# Altium schematic symbol library dungvh03-CERN_Logic.SchLib: 486 symbols (part 27 of 54)
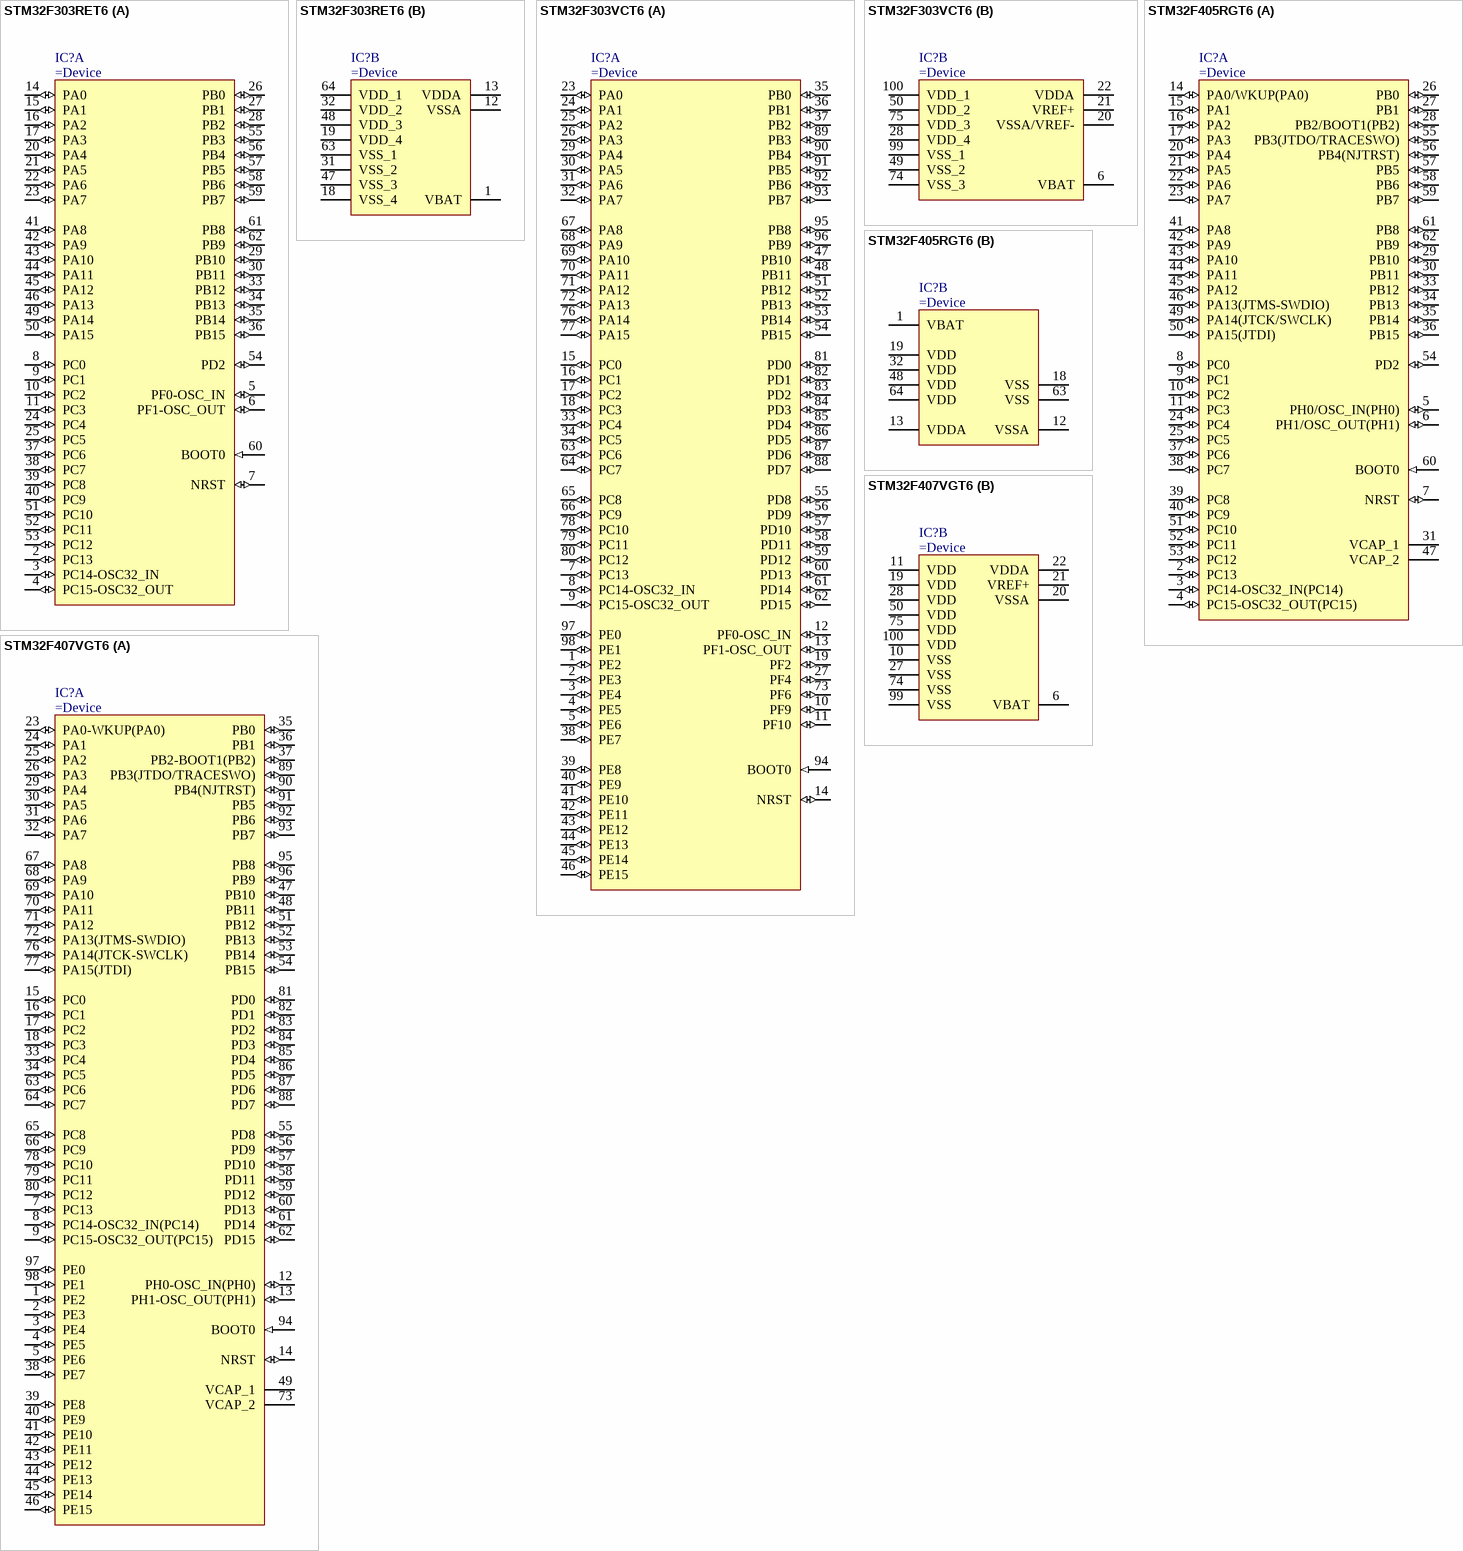
[diagram p287: symbols STM32F303RET6 to STM32F407VGT6]

## STM32F303VCT6
designator IC?
ARM Cortex-M4 32-bit MCU, 256 KB Flash, 40 KB Internal RAM, 87 I/Os, 100-pin LQFP, -40 to 85 degC, Tray
part A pins: 1 PE2 (io) "PE2/TRACECK,TIM3_CH1,TSC_G7_IO1,EVENTOUT", 2 PE3 (io) "PE3/TRACED0,TIM3_CH2,TSC_G7_IO2,EVENTOUT", 3 PE4 (io) "PE4/TRACED1,TIM3_CH3,TSC_G7_IO3,EVENTOUT", 4 PE5 (io) "PE5/TRACED2,TIM3_CH4,TSC_G7_IO4,EVENTOUT", 5 PE6 (io) "PE6/TRACED3,EVENTOUT/WKUP3,RTC_TAMP3", 7 PC13 (io) "PC13/TIM1_CH1N/WKUP2,RTC_TAMP1,RTC_TS,RTC_OUT", 8 PC14-OSC32_IN (io) "PC14-OSC32_IN(PC14)/OSC32_IN", 9 PC15-OSC32_OUT (io) "PC15-OSC32_OUT(PC15)/OSC32_OUT", 10 PF9 (io) "PF9/TIM15_CH1,SPI2_SCK,EVENTOUT", 11 PF10 (io) "PF10/TIM15_CH2,SPI2_SCK,EVENTOUT", 12 PF0-OSC_IN (io) "PF0-OSC_IN(PF0)/TIM1_CH3N,I2C2_SDA/OSC_IN", 13 PF1-OSC_OUT (io) "PF1-OSC_OUT(PF1)/I2C2_SCL/OSC_OUT", 14 NRST (io) "Device reset input / internal reset output (active low)", 15 PC0 (io) "PC0/EVENTOUT/ADC12_IN6,COMP7_INM", 16 PC1 (io) "PC1/EVENTOUT/ADC12_IN7,COMP7_INP", 17 PC2 (io) "PC2/COMP7_OUT,EVENTOUT/ADC12_IN8", 18 PC3 (io) "PC3/TIM1_BKIN2,EVENTOUT/ADC12_IN9", 19 PF2 (io) "PF2/EVENTOUT/ADC12_IN10", 23 PA0 (io) "PA0/USART2_CTS,TIM2_CH1_ETR,TIM8_BKIN,TIM8_ETR,TSC_G1_IO1,COMP1_OUT,EVENTOUT/ADC1_IN1,COMP1_INM,RTC_TAMP2,WKUP1,COMP7_INP", 24 PA1 (io) "PA1/USART2_RTS,TIM2_CH2,TSC_G1_IO2,TIM15_CH1N,RTC_REFIN,EVENTOUT/ADC1_IN2,COMP1_INP,OPAMP1_VINP,OPAMP3_VINP", 25 PA2 (io) "PA2/USART2_TX,TIM2_CH3,TIM15_CH1,TSC_G1_IO3,COMP2_OUT,EVENTOUT/ADC1_IN3,COMP2_INM,OPAMP1_VOUT", 26 PA3 (io) "PA3/USART2_RX,TIM2_CH4,TIM15_CH2,TSC_G1_IO4,EVENTOUT/ADC1_IN4,OPAMP1_VINP,COMP2_INP,OPAMP1_VINM", 27 PF4 (io) "PF4/COMP1_OUT,EVENTOUT/ADC1_IN5", 29 PA4 (io) "PA4/SPI1_NSS,SPI3_NSS,I2S3_WS,USART2_CK,TSC_G2_IO1,TIM3_CH2,EVENTOUT/ADC2_IN1,DAC1_OUT1,OPAMP4_VINP,COMP1_INM,COMP2_INM,COMP3_INM,COMP4_INM,COMP5_INM,COMP6_INM,COMP7_INM", 30 PA5 (io) "PA5/SPI1_SCK,TIM2_CH1_ETR,TSC_G2_IO2,EVENTOUT/ADC2_IN2,DAC1_OUT2,OPAMP1_VINP,OPAMP2_VINM,OPAMP3_VINP,COMP1_INM,COMP2_INM,COMP3_INM,COMP4_INM,COMP5_INM,COMP6_INM,COMP7_INM", 31 PA6 (io) "PA6/SPI1_MISO,TIM3_CH1,TIM8_BKIN,TIM1_BKIN,TIM16_CH1,COMP1_OUT,TSC_G2_IO3,EVENTOUT/ADC2_IN3,OPAMP2_VOUT", 32 PA7 (io) "PA7/SPI1_MOSI,TIM3_CH2,TIM17_CH1,TIM1_CH1N,TIM8_CH1N,TSC_G2_IO4,COMP2_OUT,EVENTOUT/ADC2_IN4,COMP2_INP,OPAMP2_VINP,OPAMP1_VINP", 33 PC4 (io) "PC4/USART1_TX,EVENTOUT/ADC2_IN5", 34 PC5 (io) "PC5/USART1_RX,TSC_G3_IO1,EVENTOUT/ADC2_IN11,OPAMP2_VINM,OPAMP1_VINM", 35 PB0 (io) "PB0/TIM3_CH3,TIM1_CH2N,TIM8_CH2N,TSC_G3_IO2,EVENTOUT/ADC3_IN12,COMP4_INP,OPAMP3_VINP,OPAMP2_VINP", 36 PB1 (io) "PB1/TIM3_CH4,TIM1_CH3N,TIM8_CH3N,COMP4_OUT,TSC_G3_IO3,EVENTOUT/ADC3_IN1,OPAMP3_VOUT", 37 PB2 (io) "PB2/TSC_G3_IO4,EVENTOUT/ADC2_IN12,COMP4_INM,OPAMP3_VINM", 38 PE7 (io) "PE7/TIM1_ETR,EVENTOUT/ADC3_IN13,COMP4_INP", 39 PE8 (io) "PE8/TIM1_CH1N,EVENTOUT/COMP4_INM,ADC34_IN6", 40 PE9 (io) "PE9/TIM1_CH1,EVENTOUT/ADC3_IN2", 41 PE10 (io) "PE10/TIM1_CH2N,EVENTOUT/ADC3_IN14", 42 PE11 (io) "PE11/TIM1_CH2,EVENTOUT/ADC3_IN15", 43 PE12 (io) "PE12/TIM1_CH3N,EVENTOUT/ADC3_IN16", 44 PE13 (io) "PE13/TIM1_CH3,EVENTOUT/ADC3_IN3", 45 PE14 (io) "PE14/TIM1_CH4,TIM1_BKIN2,EVENTOUT/ADC4_IN1", 46 PE15 (io) "PE15/USART3_RX,TIM1_BKIN,EVENTOUT/ADC4_IN2", 47 PB10 (io) "PB10/USART3_TX,TIM2_CH3,TSC_SYNC,EVENTOUT/COMP5_INM,OPAMP4_VINM,OPAMP3_VINM", 48 PB11 (io) "PB11/USART3_RX,TIM2_CH4,TSC_G6_IO1,EVENTOUT/COMP6_INP,OPAMP4_VINP", 51 PB12 (io) "PB12/SPI2_NSS,I2S2_WS,I2C2_SMBA,USART3_CK,TIM1_BKIN,TSC_G6_IO2,EVENTOUT/ADC4_IN3,COMP3_INM,OPAMP4_VOUT", 52 PB13 (io) "PB13/SPI2_SCK,I2S2_CK,USART3_CTS,TIM1_CH1N,TSC_G6_IO3,EVENTOUT/ADC3_IN5,COMP5_INP,OPAMP4_VINP,OPAMP3_VINP", 53 PB14 (io) "PB14/SPI2_MISO,I2S2ext_SD,USART3_RTS,TIM1_CH2N,TIM15_CH1,TSC_G6_IO4,EVENTOUT/COMP3_INP,ADC4_IN4,OPAMP2_VINP", 54 PB15 (io) "PB15/SPI2_MOSI,I2S2_SD,TIM1_CH3N,RTC_REFIN,TIM15_CH1N,TIM15_CH2,EVENTOUT/ADC4_IN5,COMP6_INM", 55 PD8 (io) "PD8/USART3_TX,EVENTOUT/ADC4_IN12,OPAMP4_VINM", 56 PD9 (io) "PD9/USART3_RX,EVENTOUT/ADC4_IN13", 57 PD10 (io) "PD10/USART3_CK,EVENTOUT/ADC34_IN7,COMP6_INM", 58 PD11 (io) "PD11/USART3_CTS,EVENTOUT/ADC34_IN8,COMP6_INP,OPAMP4_VINP", 59 PD12 (io) "PD12/USART3_RTS,TIM4_CH1,TSC_G8_IO1,EVENTOUT/ADC34_IN9,COMP5_INP", 60 PD13 (io) "PD13/TIM4_CH2,TSC_G8_IO2,EVENTOUT/ADC34_IN10,COMP5_INM", 61 PD14 (io) "PD14/TIM4_CH3,TSC_G8_IO3,EVENTOUT/COMP3_INP,ADC34_IN11,OPAMP2_VINP", 62 PD15 (io) "PD15/SPI2_NSS,TIM4_CH4,TSC_G8_IO4,EVENTOUT/COMP3_INM", 63 PC6 (io) "PC6/I2S2_MCK,COMP6_OUT,TIM8_CH1,TIM3_CH1,EVENTOUT", 64 PC7 (io) "PC7/I2S3_MCK,TIM8_CH2,TIM3_CH2,COMP5_OUT,EVENTOUT", 65 PC8 (io) "PC8/TIM8_CH3,TIM3_CH3,COMP3_OUT,EVENTOUT", 66 PC9 (io) "PC9/TIM8_CH4,TIM8_BKIN2,TIM3_CH4,I2S_CKIN,EVENTOUT", 67 PA8 (io) "PA8/I2C2_SMBA,I2S2_MCK,USART1_CK,TIM1_CH1,TIM4_ETR,MCO,COMP3_OUT,EVENTOUT", 68 PA9 (io) "PA9/I2C2_SCL,I2S3_MCK,USART1_TX,TIM1_CH2,TIM2_CH3,TIM15_BKIN,TSC_G4_IO1,COMP5_OUT,EVENTOUT", 69 PA10 (io) "PA10/I2C2_SDA,USART1_RX,TIM1_CH3,TIM2_CH4,TIM8_BKIN,TIM17_BKIN,TSC_G4_IO2,COMP6_OUT,EVENTOUT", 70 PA11 (io) "PA11/USART1_CTS,USB_DM,CAN_RX,TIM1_CH1N,TIM1_CH4,TIM1_BKIN2,TIM4_CH1,COMP1_OUT,EVENTOUT", 71 PA12 (io) "PA12/USART1_RTS,USB_DP,CAN_TX,TIM1_CH2N,TIM1_ETR,TIM4_CH2,TIM16_CH1,COMP2_OUT,EVENTOUT", 72 PA13 (io) "PA13/USART3_CTS,TIM4_CH3,TIM16_CH1N,TSC_G4_IO3,IR_OUT,SWDIO-JTMS,EVENTOUT", 73 PF6 (io) "PF6/I2C2_SCL,USART3_RTS,TIM4_CH4,EVENTOUT", 76 PA14 (io) "PA14/I2C1_SDA,USART2_TX,TIM8_CH2,TIM1_BKIN,TSC_G4_IO4,SWCLK-JTCK,EVENTOUT", 77 PA15 (io) "PA15/I2C1_SCL,SPI1_NSS,SPI3_NSS,I2S3_WS,JTDI,USART2_RX,TIM1_BKIN,TIM2_CH1_ETR,TIM8_CH1,EVENTOUT", 78 PC10 (io) "PC10/SPI3_SCK,I2S3_CK,USART3_TX,UART4_TX,TIM8_CH1N,EVENTOUT", 79 PC11 (io) "PC11/SPI3_MISO,I2S3ext_SD,USART3_RX,UART4_RX,TIM8_CH2N,EVENTOUT", 80 PC12 (io) "PC12/SPI3_MOSI,I2S3_SD,USART3_CK,UART5_TX,TIM8_CH3N,EVENTOUT", 81 PD0 (io) "PD0/CAN_RX,EVENTOUT", 82 PD1 (io) "PD1/CAN_TX,TIM8_CH4,TIM8_BKIN2,EVENTOUT", 83 PD2 (io) "PD2/UART5_RX,TIM3_ETR,TIM8_BKIN,EVENTOUT", 84 PD3 (io) "PD3/USART2_CTS,TIM2_CH1_ETR,EVENTOUT", 85 PD4 (io) "PD4/USART2_RTS,TIM2_CH2,EVENTOUT", 86 PD5 (io) "PD5/USART2_TX,EVENTOUT", 87 PD6 (io) "PD6/USART2_RX,TIM2_CH4,EVENTOUT", 88 PD7 (io) "PD7/USART2_CK,TIM2_CH3,EVENTOUT", 89 PB3 (io) "PB3/SPI3_SCK,I2S3_CK,SPI1_SCK,USART2_TX,TIM2_CH2,TIM3_ETR,TIM4_ETR,TIM8_CH1N,TSC_G5_IO1,JTDO-TRACESWO,EVENTOUT", 90 PB4 (io) "PB4/SPI3_MISO,I2S3ext_SD,SPI1_MISO,USART2_RX,TIM3_CH1,TIM16_CH1,TIM17_BKIN,TIM8_CH2N,TSC_G5_IO2,NJTRST,EVENTOUT", 91 PB5 (io) "PB5/SPI3_MOSI,SPI1_MOSI,I2S3_SD,I2C1_SMBA,USART2_CK,TIM16_BKIN,TIM3_CH2,TIM8_CH3N,TIM17_CH1,EVENTOUT", 92 PB6 (io) "PB6/I2C1_SCL,USART1_TX,TIM16_CH1N,TIM4_CH1,TIM8_CH1,TSC_G5_IO3,TIM8_ETR,TIM8_BKIN2,EVENTOUT", 93 PB7 (io) "PB7/I2C1_SDA,USART1_RX,TIM3_CH4,TIM4_CH2,TIM17_CH1N,TIM8_BKIN,TSC_G5_IO4,EVENTOUT", 94 BOOT0 (in) "Boot memory selection", 95 PB8 (io) "PB8/I2C1_SCL,CAN_RX,TIM16_CH1,TIM4_CH3,TIM8_CH2,TIM1_BKIN,TSC_SYNC,COMP1_OUT,EVENTOUT", 96 PB9 (io) "PB9/I2C1_SDA,CAN_TX,TIM17_CH1,TIM4_CH4,TIM8_CH3,IR_OUT,COMP2_OUT,EVENTOUT", 97 PE0 (io) "PE0/USART1_TX,TIM4_ETR,TIM16_CH1,EVENTOUT", 98 PE1 (io) "PE1/USART1_RX,TIM17_CH1,EVENTOUT"
part B pins: 6 VBAT (power) "Backup power supply", 20 VSSA/VREF- (power) "Analog ground/Negative reference voltage", 21 VREF+ (power) "Positive reference voltage", 22 VDDA (power) "Analog power supply", 28 VDD_4 (power) "Digital power supply", 49 VSS_2 (power) "Digital ground", 50 VDD_2 (power) "Digital power supply", 74 VSS_3 (power) "Ground", 75 VDD_3 (power) "Digital power supply", 99 VSS_1 (power) "Ground", 100 VDD_1 (power) "Digital power supply"

## STM32F405RGT6
designator IC?
ARM Cortex-M4 32-bit MCU+FPU, 210DMIPS, 1024kB Flash, 192kB+4kB RAM, 51 I/Os, 64-pin LQFP, Industrial Grade –40 to 85°C
part A pins: 2 PC13 (io) "PC13/EVENTOUT/RTC_OUT,RTC_TAMP1,RTC_TS", 3 PC14-OSC32_IN(PC14) (io) "PC14-OSC32_IN(PC14)/EVENTOUT/OSC32_IN", 4 PC15-OSC32_OUT(PC15) (io) "PC15-OSC32_OUT(PC15)/EVENTOUT/OSC32_OUT", 5 PH0/OSC_IN(PH0) (io) "PH0/OSC_IN(PH0)/EVENTOUT/OSC_IN", 6 PH1/OSC_OUT(PH1) (io) "PH1-OSC_OUT(PH1)/EVENTOUT/OSC_OUT", 7 NRST (io), 8 PC0 (io) "PC0/OTG_HS_ULPI_STP/EVENTOUT/ADC123_IN10", 9 PC1 (io) "PC1/ETH_MDC/EVENTOUT/ADC123_IN11", 10 PC2 (io) "PC2/SPI2_MISO/OTG_HS_ULPI_DIR/ETH_MII_TXD2/I2S2ext_SD/EVENTOUT/ADC123_IN12", 11 PC3 (io) "PC3/SPI2_MOSI/I2S2_SD/OTG_HS_ULPI_NXT/ETH_MII_TX_CLK/EVENTOUT/ADC123_IN13", 14 PA0/WKUP(PA0) (io) "PA0-WKUP(PA0)/USART2_CTS/UART4_TX/ETH_MII_CRS/TIM2_CH1_ETR/TIM5_CH1/TIM8_ETR/EVENTOUT/ADC123_IN0/WKUP", 15 PA1 (io) "PA1/USART2_RTS/UART4_RX/ETH_RMII_REF_CLK/ETH_MII_RX_CLK/TIM5_CH2/TIM2_CH2/EVENTOUT/ADC123_IN1", 16 PA2 (io) "PA2/USART2_TX/TIM5_CH3/TIM9_CH1/TIM2_CH3/ETH_MDIO/EVENTOUT/ADC123_IN2", 17 PA3 (io) "PA3/USART2_RX/TIM5_CH4/TIM9_CH2/TIM2_CH4/OTG_HS_ULPI_D0/ETH_MII_COL/EVENTOUT/ADC123_IN3", 20 PA4 (io) "PA4/SPI1_NSS/SPI3_NSS/USART2_CK/DCMI_HSYNC/OTG_HS_SOF/I2S3_WS/EVENTOUT/ADC12_IN4/DAC_OUT1", 21 PA5 (io) "PA5/SPI1_SCK/OTG_HS_ULPI_CK/TIM2_CH1_ETR/TIM8_CH1N/EVENTOUT/ADC12_IN5/DAC_OUT2", 22 PA6 (io) "PA6/SPI1_MISO/TIM8_BKIN/TIM13_CH1/DCMI_PIXCLK/TIM3_CH1/TIM1_BKIN/EVENTOUT/ADC12_IN6", 23 PA7 (io) "PA7/SPI1_MOSI/TIM8_CH1N/TIM14_CH1/TIM3_CH2/ETH_MII_RX_DV/TIM1_CH1N/ETH_RMII_CRS_DV/EVENTOUT/ADC12_IN7", 24 PC4 (io) "PC4/ETH_RMII_RX_D0/ETH_MII_RX_D0/EVENTOUT/ADC12_IN14", 25 PC5 (io) "PC5/ETH_RMII_RX_D1/ETH_MII_RX_D1/EVENTOUT/ADC12_IN15", 26 PB0 (io) "PB0/TIM3_CH3/TIM8_CH2N/OTG_HS_ULPI_D1/ETH_MII_RXD2/TIM1_CH2N/EVENTOUT/ADC12_IN8", 27 PB1 (io) "PB1/TIM3_CH4/TIM8_CH3N/OTG_HS_ULPI_D2/ETH_MII_RXD3/TIM1_CH3N/EVENTOUT/ADC12_IN9", 28 PB2/BOOT1(PB2) (io) "PB2-BOOT1(PB2)/EVENTOUT", 29 PB10 (io) "PB10/SPI2_SCK/I2S2_CK/I2C2_SCL/USART3_TX/OTG_HS_ULPI_D3/ETH_MII_RX_ER/TIM2_CH3/EVENTOUT", 30 PB11 (io) "PB11/I2C2_SDA/USART3_RX/OTG_HS_ULPI_D4/ETH_RMII_TX_EN/ETH_MII_TX_EN/TIM2_CH4/EVENTOUT", 31 VCAP_1 (power), 33 PB12 (io) "PB12/SPI2_NSS/I2S2_WS/I2C2_SMBA/USART3_CK/TIM1_BKIN/CAN2_RX/OTG_HS_ULPI_D5/ETH_RMII_TXD0/ETH_MII_TXD0/OTG_HS_ID/EVENTOUT", 34 PB13 (io) "PB13/SPI2_SCK/I2S2_CK/USART3_CTS/TIM1_CH1N/CAN2_TX/OTG_HS_ULPI_D6/ETH_RMII_TXD1/ETH_MII_TXD1/EVENTOUT/OTG_HS_VBUS", 35 PB14 (io) "PB14/SPI2_MISO/TIM1_CH2N/TIM12_CH1/OTG_HS_DM/USART3_RTS/TIM8_CH2N/I2S2ext_SD/EVENTOUT", 36 PB15 (io) "PB15/SPI2_MOSI/I2S2_SD/TIM1_CH3N/TIM8_CH3N/TIM12_CH2/OTG_HS_DP/EVENTOUT/RTC_REFIN", 37 PC6 (io) "PC6/I2S2_MCK/TIM8_CH1/SDIO_D6/USART6_TX/DCMI_D0/TIM3_CH1/EVENTOUT", 38 PC7 (io) "PC7/I2S3_MCK/TIM8_CH2/SDIO_D7/USART6_RX/DCMI_D1/TIM3_CH2/EVENTOUT", 39 PC8 (io) "PC8/TIM8_CH3/SDIO_D0/TIM3_CH3/USART6_CK/DCMI_D2/EVENTOUT", 40 PC9 (io) "PC9/I2S_CKIN/MCO2/TIM8_CH4/SDIO_D1/I2C3_SDA/DCMI_D3/TIM3_CH4/EVENTOUT", 41 PA8 (io) "PA8/MCO1/USART1_CK/TIM1_CH1/I2C3_SCL/OTG_FS_SOF/EVENTOUT", 42 PA9 (io) "PA9/USART1_TX/TIM1_CH2/I2C3_SMBA/DCMI_D0/EVENTOUT/OTG_FS_VBUS", 43 PA10 (io) "PA10/USART1_RX/TIM1_CH3/OTG_FS_ID/DCMI_D1/EVENTOUT", 44 PA11 (io) "PA11/USART1_CTS/CAN1_RX/TIM1_CH4/OTG_FS_DM/EVENTOUT", 45 PA12 (io) "PA12/USART1_RTS/CAN1_TX/TIM1_ETR/OTG_FS_DP/EVENTOUT", 46 PA13(JTMS-SWDIO) (io) "PA13(JTMS-SWDIO)/JTMS-SWDIO/EVENTOUT", 47 VCAP_2 (power), 49 PA14(JTCK/SWCLK) (io) "PA14(JTCK-SWCLK)/JTCK-SWCLK/EVENTOUT", 50 PA15(JTDI) (io) "PA15(JTDI)/JTDI/SPI3_NSS/I2S3_WS/TIM2_CH1_ETR/SPI1_NSS/EVENTOUT", 51 PC10 (io) "PC10/SPI3_SCK/I2S3_CK/UART4_TX/SDIO_D2/DCMI_D8/USART3_TX/EVENTOUT", 52 PC11 (io) "PC11/UART4_RX/SPI3_MISO/SDIO_D3/DCMI_D4/USART3_RX/I2S3ext_SD/EVENTOUT", 53 PC12 (io) "PC12/UART5_TX/SDIO_CK/DCMI_D9/SPI3_MOSI/I2S3_SD/USART3_CK/EVENTOUT", 54 PD2 (io) "PD2/TIM3_ETR/UART5_RX/SDIO_CMD/DCMI_D11/EVENTOUT", 55 PB3(JTDO/TRACESWO) (io) "PB3(JTDO/TRACESWO)/JTDO/TRACESWO/SPI3_SCK/I2S3_CK/TIM2_CH2/SPI1_SCK/EVENTOUT", 56 PB4(NJTRST) (io) "PB4(NJTRST)/NJTRST/SPI3_MISO/TIM3_CH1/SPI1_MISO/I2S3ext_SD/EVENTOUT", 57 PB5 (io) "PB5/I2C1_SMBA/CAN2_RX/OTG_HS_ULPI_D7/ETH_PPS_OUT/TIM3_CH2/SPI1_MOSI/SPI3_MOSI/DCMI_D10/I2S3_SD/EVENTOUT", 58 PB6 (io) "PB6/I2C1_SCL/TIM4_CH1/CAN2_TX/DCMI_D5/USART1_TX/EVENTOUT", 59 PB7 (io) "PB7/I2C1_SDA/FSMC_NL/DCMI_VSYNC/USART1_RX/TIM4_CH2/EVENTOUT", 60 BOOT0 (in) "BOOT0/VPP", 61 PB8 (io) "PB8/TIM4_CH3/SDIO_D4/TIM10_CH1/DCMI_D6/ETH_MII_TXD3/I2C1_SCL/CAN1_RX/EVENTOUT", 62 PB9 (io) "PB9/SPI2_NSS/I2S2_WS/TIM4_CH4/TIM11_CH1/SDIO_D5/DCMI_D7/I2C1_SDA/CAN1_TX/EVENTOUT"
part B pins: 1 VBAT (power), 12 VSSA (power), 13 VDDA (power), 18 VSS (power), 19 VDD (power), 32 VDD (power), 48 VDD (power), 63 VSS (power), 64 VDD (power)

## STM32F407VGT6
designator IC?
ARM Cortex-M4 32-bit MCU+FPU, 210 DMIPS, 1024 kB Flash, 192 kB Internal RAM, 82 I/Os, 100-pin LQFP, -40 to 85 degC, Tray
part A pins: 1 PE2 (io) "PE2/TRACECLK/FSMC_A23/ETH_MII_TXD3/EVENTOUT", 2 PE3 (io) "PE3/TRACED0/FSMC_A19/EVENTOUT", 3 PE4 (io) "PE4/TRACED1/FSMC_A20/DCMI_D4/EVENTOUT", 4 PE5 (io) "PE5/TRACED2/FSMC_A21/TIM9_CH1/DCMI_D6/EVENTOUT", 5 PE6 (io) "PE6/TRACED3/FSMC_A22/TIM9_CH2/DCMI_D7/EVENTOUT", 7 PC13 (io) "PC13/EVENTOUT/RTC_OUT,RTC_TAMP1,RTC_TS", 8 PC14-OSC32_IN(PC14) (io) "PC14-OSC32_IN(PC14)/EVENTOUT/OSC32_IN", 9 PC15-OSC32_OUT(PC15) (io) "PC15-OSC32_OUT(PC15)/EVENTOUT/OSC32_OUT", 12 PH0-OSC_IN(PH0) (io) "PH0-OSC_IN(PH0)/EVENTOUT/OSC_IN", 13 PH1-OSC_OUT(PH1) (io) "PH1-OSC_OUT(PH1)/EVENTOUT/OSC_OUT", 14 NRST (io), 15 PC0 (io) "PC0/OTG_HS_ULPI_STP/EVENTOUT/ADC123_IN10", 16 PC1 (io) "PC1/ETH_MDC/EVENTOUT/ADC123_IN11", 17 PC2 (io) "PC2/SPI2_MISO/OTG_HS_ULPI_DIR/ETH_MII_TXD2/I2S2ext_SD/EVENTOUT/ADC123_IN12", 18 PC3 (io) "PC3/SPI2_MOSI/I2S2_SD/OTG_HS_ULPI_NXT/ETH_MII_TX_CLK/EVENTOUT/ADC123_IN13", 23 PA0-WKUP(PA0) (io) "PA0-WKUP(PA0)/USART2_CTS/UART4_TX/ETH_MII_CRS/TIM2_CH1_ETR/TIM5_CH1/TIM8_ETR/EVENTOUT/ADC123_IN0/WKUP", 24 PA1 (io) "PA1/USART2_RTS/UART4_RX/ETH_RMII_REF_CLK/ETH_MII_RX_CLK/TIM5_CH2/TIM2_CH2/EVENTOUT/ADC123_IN1", 25 PA2 (io) "PA2/USART2_TX/TIM5_CH3/TIM9_CH1/TIM2_CH3/ETH_MDIO/EVENTOUT/ADC123_IN2", 26 PA3 (io) "PA3/USART2_RX/TIM5_CH4/TIM9_CH2/TIM2_CH4/OTG_HS_ULPI_D0/ETH_MII_COL/EVENTOUT/ADC123_IN3", 29 PA4 (io) "PA4/SPI1_NSS/SPI3_NSS/USART2_CK/DCMI_HSYNC/OTG_HS_SOF/I2S3_WS/EVENTOUT/ADC12_IN4/DAC_OUT1", 30 PA5 (io) "PA5/SPI1_SCK/OTG_HS_ULPI_CK/TIM2_CH1_ETR/TIM8_CH1N/EVENTOUT/ADC12_IN5/DAC_OUT2", 31 PA6 (io) "PA6/SPI1_MISO/TIM8_BKIN/TIM13_CH1/DCMI_PIXCLK/TIM3_CH1/TIM1_BKIN/EVENTOUT/ADC12_IN6", 32 PA7 (io) "PA7/SPI1_MOSI/TIM8_CH1N/TIM14_CH1/TIM3_CH2/ETH_MII_RX_DV/TIM1_CH1N/ETH_RMII_CRS_DV/EVENTOUT/ADC12_IN7", 33 PC4 (io) "PC4/ETH_RMII_RX_D0/ETH_MII_RX_D0/EVENTOUT/ADC12_IN14", 34 PC5 (io) "PC5/ETH_RMII_RX_D1/ETH_MII_RX_D1/EVENTOUT/ADC12_IN15", 35 PB0 (io) "PB0/TIM3_CH3/TIM8_CH2N/OTG_HS_ULPI_D1/ETH_MII_RXD2/TIM1_CH2N/EVENTOUT/ADC12_IN8", 36 PB1 (io) "PB1/TIM3_CH4/TIM8_CH3N/OTG_HS_ULPI_D2/ETH_MII_RXD3/TIM1_CH3N/EVENTOUT/ADC12_IN9", 37 PB2-BOOT1(PB2) (io) "PB2-BOOT1(PB2)/EVENTOUT", 38 PE7 (io) "PE7/FSMC_D4/TIM1_ETR/EVENTOUT", 39 PE8 (io) "PE8/FSMC_D5/TIM1_CH1N/EVENTOUT", 40 PE9 (io) "PE9/FSMC_D6/TIM1_CH1/EVENTOUT", 41 PE10 (io) "PE10/FSMC_D7/TIM1_CH2N/EVENTOUT", 42 PE11 (io) "PE11/FSMC_D8/TIM1_CH2/EVENTOUT", 43 PE12 (io) "PE12/FSMC_D9/TIM1_CH3N/EVENTOUT", 44 PE13 (io) "PE13/FSMC_D10/TIM1_CH3/EVENTOUT", 45 PE14 (io) "PE14/FSMC_D11/TIM1_CH4/EVENTOUT", 46 PE15 (io) "PE15/FSMC_D12/TIM1_BKIN/EVENTOUT", 47 PB10 (io) "PB10/SPI2_SCK/I2S2_CK/I2C2_SCL/USART3_TX/OTG_HS_ULPI_D3/ETH_MII_RX_ER/TIM2_CH3/EVENTOUT", 48 PB11 (io) "PB11/I2C2_SDA/USART3_RX/OTG_HS_ULPI_D4/ETH_RMII_TX_EN/ETH_MII_TX_EN/TIM2_CH4/EVENTOUT", 49 VCAP_1 (power), 51 PB12 (io) "PB12/SPI2_NSS/I2S2_WS/I2C2_SMBA/USART3_CK/TIM1_BKIN/CAN2_RX/OTG_HS_ULPI_D5/ETH_RMII_TXD0/ETH_MII_TXD0/OTG_HS_ID/EVENTOUT", 52 PB13 (io) "PB13/SPI2_SCK/I2S2_CK/USART3_CTS/TIM1_CH1N/CAN2_TX/OTG_HS_ULPI_D6/ETH_RMII_TXD1/ETH_MII_TXD1/EVENTOUT/OTG_HS_VBUS", 53 PB14 (io) "PB14/SPI2_MISO/TIM1_CH2N/TIM12_CH1/OTG_HS_DM/USART3_RTS/TIM8_CH2N/I2S2ext_SD/EVENTOUT", 54 PB15 (io) "PB15/SPI2_MOSI/I2S2_SD/TIM1_CH3N/TIM8_CH3N/TIM12_CH2/OTG_HS_DP/EVENTOUT/RTC_REFIN", 55 PD8 (io) "PD8/FSMC_D13/USART3_TX/EVENTOUT", 56 PD9 (io) "PD9/FSMC_D14/USART3_RX/EVENTOUT", 57 PD10 (io) "PD10/FSMC_D15/USART3_CK/EVENTOUT", 58 PD11 (io) "PD11/FSMC_CLE/FSMC_A16/USART3_CTS/EVENTOUT", 59 PD12 (io) "PD12/FSMC_ALE/FSMC_A17/TIM4_CH1/USART3_RTS/EVENTOUT", 60 PD13 (io) "PD13/FSMC_A18/TIM4_CH2/EVENTOUT", 61 PD14 (io) "PD14/FSMC_D0/TIM4_CH3/EVENTOUT", 62 PD15 (io) "PD15/FSMC_D1/TIM4_CH4/EVENTOUT", 63 PC6 (io) "PC6/I2S2_MCK/TIM8_CH1/SDIO_D6/USART6_TX/DCMI_D0/TIM3_CH1/EVENTOUT", 64 PC7 (io) "PC7/I2S3_MCK/TIM8_CH2/SDIO_D7/USART6_RX/DCMI_D1/TIM3_CH2/EVENTOUT", 65 PC8 (io) "PC8/TIM8_CH3/SDIO_D0/TIM3_CH3/USART6_CK/DCMI_D2/EVENTOUT", 66 PC9 (io) "PC9/I2S_CKIN/MCO2/TIM8_CH4/SDIO_D1/I2C3_SDA/DCMI_D3/TIM3_CH4/EVENTOUT", 67 PA8 (io) "PA8/MCO1/USART1_CK/TIM1_CH1/I2C3_SCL/OTG_FS_SOF/EVENTOUT", 68 PA9 (io) "PA9/USART1_TX/TIM1_CH2/I2C3_SMBA/DCMI_D0/EVENTOUT/OTG_FS_VBUS", 69 PA10 (io) "PA10/USART1_RX/TIM1_CH3/OTG_FS_ID/DCMI_D1/EVENTOUT", 70 PA11 (io) "PA11/USART1_CTS/CAN1_RX/TIM1_CH4/OTG_FS_DM/EVENTOUT", 71 PA12 (io) "PA12/USART1_RTS/CAN1_TX/TIM1_ETR/OTG_FS_DP/EVENTOUT", 72 PA13(JTMS-SWDIO) (io) "PA13(JTMS-SWDIO)/JTMS-SWDIO/EVENTOUT", 73 VCAP_2 (power), 76 PA14(JTCK-SWCLK) (io) "PA14(JTCK-SWCLK)/JTCK-SWCLK/EVENTOUT", 77 PA15(JTDI) (io) "PA15(JTDI)/JTDI/SPI3_NSS/I2S3_WS/TIM2_CH1_ETR/SPI1_NSS/EVENTOUT", 78 PC10 (io) "PC10/SPI3_SCK/I2S3_CK/UART4_TX/SDIO_D2/DCMI_D8/USART3_TX/EVENTOUT", 79 PC11 (io) "PC11/UART4_RX/SPI3_MISO/SDIO_D3/DCMI_D4/USART3_RX/I2S3ext_SD/EVENTOUT", 80 PC12 (io) "PC12/UART5_TX/SDIO_CK/DCMI_D9/SPI3_MOSI/I2S3_SD/USART3_CK/EVENTOUT", 81 PD0 (io) "PD0/FSMC_D2/CAN1_RX/EVENTOUT", 82 PD1 (io) "PD1/FSMC_D3/CAN1_TX/EVENTOUT", 83 PD2 (io) "PD2/TIM3_ETR/UART5_RX/SDIO_CMD/DCMI_D11/EVENTOUT", 84 PD3 (io) "PD3/FSMC_CLK/USART2_CTS/EVENTOUT", 85 PD4 (io) "PD4/FSMC_NOE/USART2_RTS/EVENTOUT", 86 PD5 (io) "PD5/FSMC_NWE/USART2_TX/EVENTOUT", 87 PD6 (io) "PD6/FSMC_NWAIT/USART2_RX/EVENTOUT", 88 PD7 (io) "PD7/USART2_CK/FSMC_NE1/FSMC_NCE2/EVENTOUT", 89 PB3(JTDO/TRACESWO) (io) "PB3(JTDO/TRACESWO)/JTDO/TRACESWO/SPI3_SCK/I2S3_CK/TIM2_CH2/SPI1_SCK/EVENTOUT", 90 PB4(NJTRST) (io) "PB4(NJTRST)/NJTRST/SPI3_MISO/TIM3_CH1/SPI1_MISO/I2S3ext_SD/EVENTOUT", 91 PB5 (io) "PB5/I2C1_SMBA/CAN2_RX/OTG_HS_ULPI_D7/ETH_PPS_OUT/TIM3_CH2/SPI1_MOSI/SPI3_MOSI/DCMI_D10/I2S3_SD/EVENTOUT", 92 PB6 (io) "PB6/I2C1_SCL/TIM4_CH1/CAN2_TX/DCMI_D5/USART1_TX/EVENTOUT", 93 PB7 (io) "PB7/I2C1_SDA/FSMC_NL/DCMI_VSYNC/USART1_RX/TIM4_CH2/EVENTOUT", 94 BOOT0 (in) "BOOT0/VPP", 95 PB8 (io) "PB8/TIM4_CH3/SDIO_D4/TIM10_CH1/DCMI_D6/ETH_MII_TXD3/I2C1_SCL/CAN1_RX/EVENTOUT", 96 PB9 (io) "PB9/SPI2_NSS/I2S2_WS/TIM4_CH4/TIM11_CH1/SDIO_D5/DCMI_D7/I2C1_SDA/CAN1_TX/EVENTOUT", 97 PE0 (io) "PE0/TIM4_ETR/FSMC_NBL0/DCMI_D2/EVENTOUT", 98 PE1 (io) "PE1/FSMC_NBL1/DCMI_D3/EVENTOUT"
part B pins: 6 VBAT (power), 10 VSS (power), 11 VDD (power), 19 VDD (power), 20 VSSA (power), 21 VREF+ (power), 22 VDDA (power), 27 VSS (power), 28 VDD (power), 50 VDD (power), 74 VSS (power), 75 VDD (power), 99 VSS (power), 100 VDD (power)

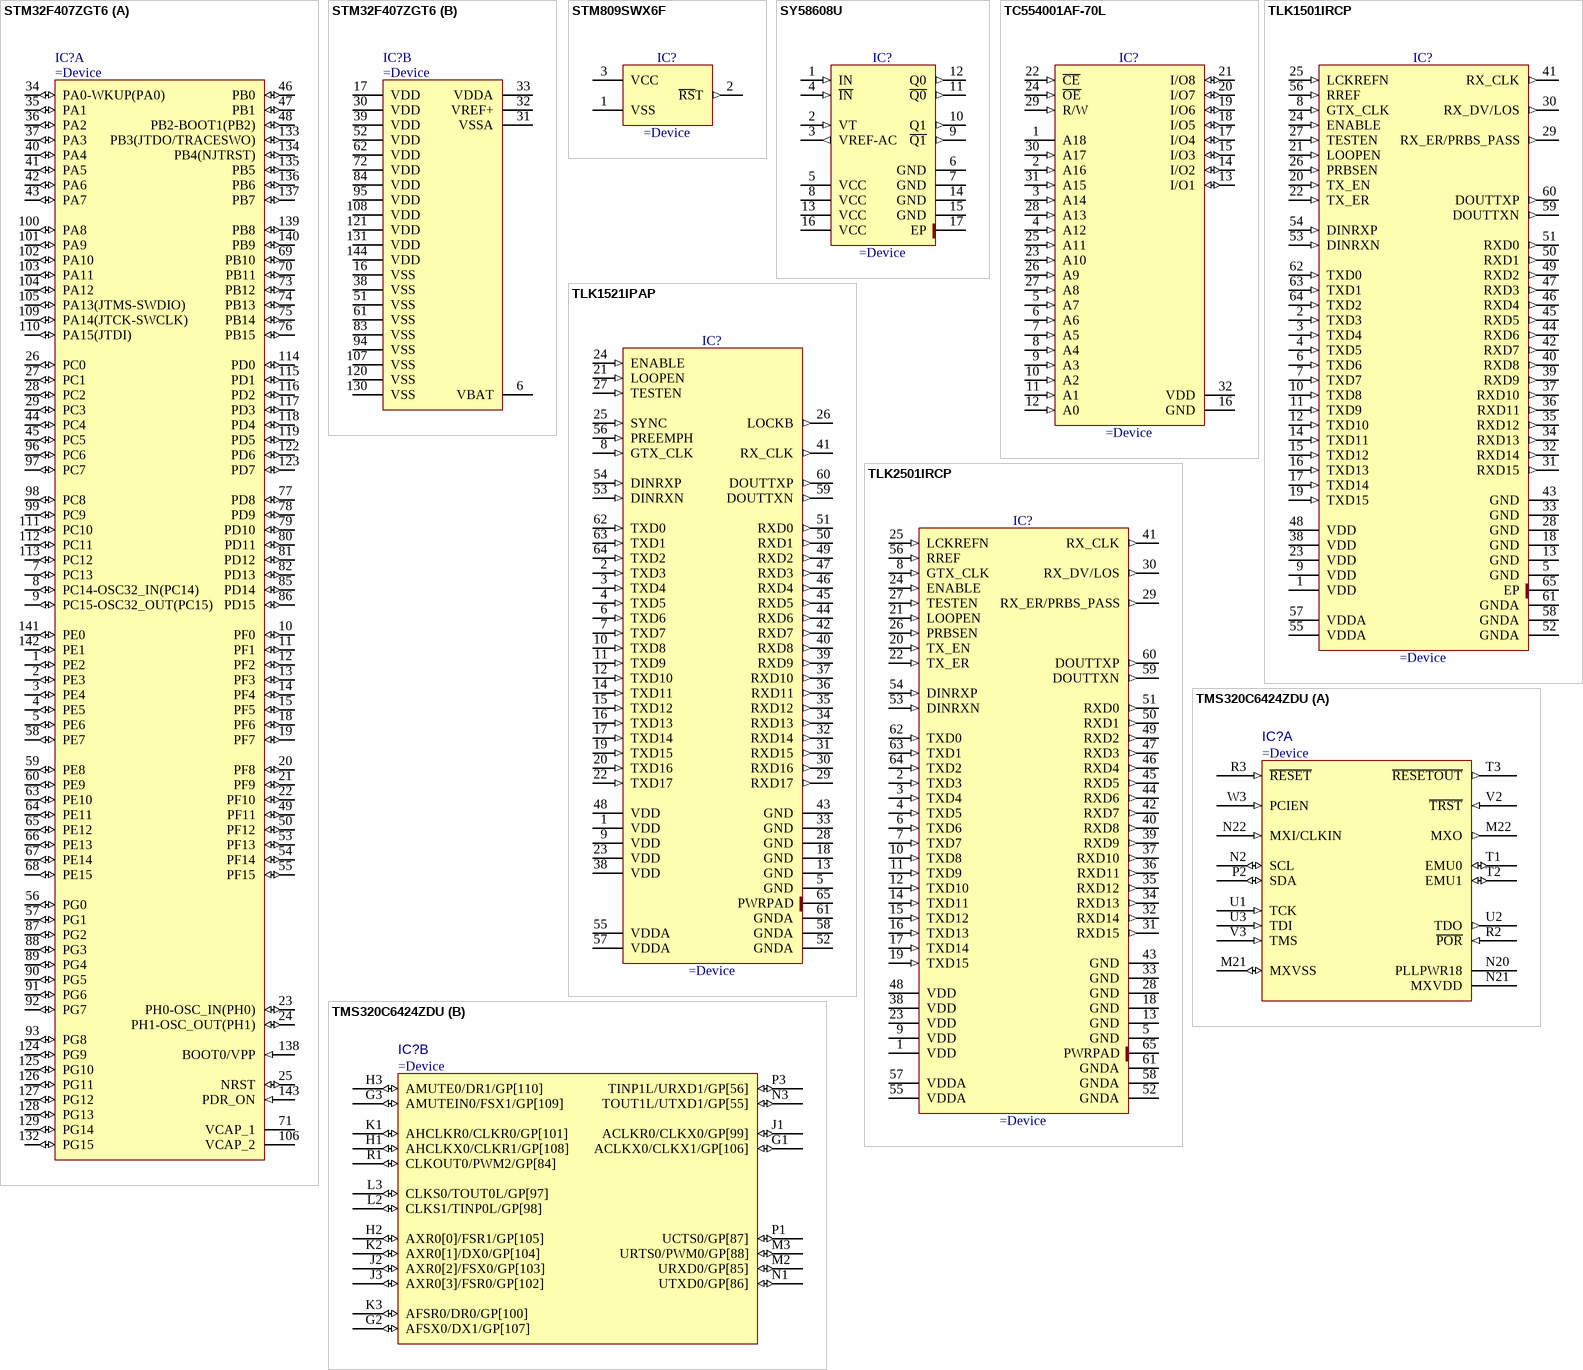
[diagram p121: symbols STM32F407ZGT6 to TMS320C6424ZDU]

## STM32F407ZGT6
designator IC?
ARM Cortex-M4 32-bit MCU+FPU, 210 DMIPS, 1024 kB Flash, 192 kB Internal RAM, 114 I/Os, 144-pin LQFP, -40 to 85 degC, Tray
part A pins: 1 PE2 (io), 2 PE3 (io), 3 PE4 (io), 4 PE5 (io), 5 PE6 (io), 7 PC13 (io), 8 PC14-OSC32_IN(PC14) (io), 9 PC15-OSC32_OUT(PC15) (io), 10 PF0 (io), 11 PF1 (io), 12 PF2 (io), 13 PF3 (io), 14 PF4 (io), 15 PF5 (io), 18 PF6 (io), 19 PF7 (io), 20 PF8 (io), 21 PF9 (io), 22 PF10 (io), 23 PH0-OSC_IN(PH0) (io), 24 PH1-OSC_OUT(PH1) (io), 25 NRST (io), 26 PC0 (io), 27 PC1 (io), 28 PC2 (io), 29 PC3 (io), 34 PA0-WKUP(PA0) (io), 35 PA1 (io), 36 PA2 (io), 37 PA3 (io), 40 PA4 (io), 41 PA5 (io), 42 PA6 (io), 43 PA7 (io), 44 PC4 (io), 45 PC5 (io), 46 PB0 (io), 47 PB1 (io), 48 PB2-BOOT1(PB2) (io), 49 PF11 (io), 50 PF12 (io), 53 PF13 (io), 54 PF14 (io), 55 PF15 (io), 56 PG0 (io), 57 PG1 (io), 58 PE7 (io), 59 PE8 (io), 60 PE9 (io), 63 PE10 (io), 64 PE11 (io), 65 PE12 (io), 66 PE13 (io), 67 PE14 (io), 68 PE15 (io), 69 PB10 (io), 70 PB11 (io), 71 VCAP_1 (power), 73 PB12 (io), 74 PB13 (io), 75 PB14 (io), 76 PB15 (io), 77 PD8 (io), 78 PD9 (io), 79 PD10 (io), 80 PD11 (io), 81 PD12 (io), 82 PD13 (io), 85 PD14 (io), 86 PD15 (io), 87 PG2 (io), 88 PG3 (io), 89 PG4 (io), 90 PG5 (io), 91 PG6 (io), 92 PG7 (io), 93 PG8 (io), 96 PC6 (io), 97 PC7 (io), 98 PC8 (io), 99 PC9 (io), 100 PA8 (io), 101 PA9 (io), 102 PA10 (io), 103 PA11 (io), 104 PA12 (io), 105 PA13(JTMS-SWDIO) (io), 106 VCAP_2 (power), 109 PA14(JTCK-SWCLK) (io), 110 PA15(JTDI) (io), 111 PC10 (io), 112 PC11 (io), 113 PC12 (io), 114 PD0 (io), 115 PD1 (io), 116 PD2 (io), 117 PD3 (io), 118 PD4 (io), 119 PD5 (io), 122 PD6 (io), 123 PD7 (io), 124 PG9 (io), 125 PG10 (io), 126 PG11 (io), 127 PG12 (io), 128 PG13 (io), 129 PG14 (io), 132 PG15 (io), 133 PB3(JTDO/TRACESWO) (io), 134 PB4(NJTRST) (io), 135 PB5 (io), 136 PB6 (io), 137 PB7 (io), 138 BOOT0/VPP (in), 139 PB8 (io), 140 PB9 (io), 141 PE0 (io), 142 PE1 (io), 143 PDR_ON (in)
part B pins: 6 VBAT (power), 16 VSS (power), 17 VDD (power), 30 VDD (power), 31 VSSA (power), 32 VREF+ (power), 33 VDDA (power), 38 VSS (power), 39 VDD (power), 51 VSS (power), 52 VDD (power), 61 VSS (power), 62 VDD (power), 72 VDD (power), 83 VSS (power), 84 VDD (power), 94 VSS (power), 95 VDD (power), 107 VSS (power), 108 VDD (power), 120 VSS (power), 121 VDD (power), 130 VSS (power), 131 VDD (power), 144 VDD (power)

## STM809SWX6F
designator IC?
3-Pin Microprocessor Reset Circuit
pins: 1 VSS (power), 2 ~{RS}T (out), 3 VCC (power)

## SY58608U
designator IC?
3.2Gbps Precision, 1:2 LVDS Fanout Buffer With Internal Termination And Fail Safe Input
pins: 1 IN (in), 2 VT (in), 3 VREF-AC (out), 4 ~{IN} (in), 5 VCC (power), 6 GND (power), 7 GND (power), 8 VCC (power), 9 ~{Q1} (out), 10 Q1 (out), 11 ~{Q0} (out), 12 Q0 (out), 13 VCC (power), 14 GND (power), 15 GND (power), 16 VCC (power), 17 EP (power)

## TC554001AF-70L
designator IC?
524,288-Word by 8-Bit Static RAM
pins: 1 A18, 2 A16 (in), 3 A14 (in), 4 A12 (in), 5 A7 (in), 6 A6 (in), 7 A5 (in), 8 A4 (in), 9 A3 (in), 10 A2 (in), 11 A1 (in), 12 A0 (in), 13 I/O1 (io), 14 I/O2 (io), 15 I/O3 (io), 16 GND (power), 17 I/O4 (io), 18 I/O5 (io), 19 I/O6 (io), 20 I/O7 (io), 21 I/O8 (io), 22 ~{CE} (in), 23 A10 (in), 24 ~{OE} (in), 25 A11 (in), 26 A9 (in), 27 A8 (in), 28 A13 (in), 29 R/W (in), 30 A17 (in), 31 A15 (in), 32 VDD (power)

## TLK1501IRCP
designator IC?
0.6 to 1.5 Gbps Transceiver
pins: 1 VDD (power), 2 TXD3 (in), 3 TXD4 (in), 4 TXD5 (in), 5 GND (power), 6 TXD6 (in), 7 TXD7 (in), 8 GTX_CLK (in), 9 VDD (power), 10 TXD8 (in), 11 TXD9 (in), 12 TXD10 (in), 13 GND (power), 14 TXD11 (in), 15 TXD12 (in), 16 TXD13 (in), 17 TXD14 (in), 18 GND (power), 19 TXD15 (in), 20 TX_EN (in), 21 LOOPEN (in), 22 TX_ER (in), 23 VDD (power), 24 ENABLE (in), 25 LCKREFN (in), 26 PRBSEN (in), 27 TESTEN (in), 28 GND (power), 29 RX_ER/PRBS_PASS (out), 30 RX_DV/LOS (out), 31 RXD15 (out), 32 RXD14 (out), 33 GND (power), 34 RXD13 (out), 35 RXD12 (out), 36 RXD11 (out), 37 RXD10 (out), 38 VDD (power), 39 RXD9 (out), 40 RXD8 (out), 41 RX_CLK (out), 42 RXD7 (out), 43 GND (power), 44 RXD6 (out), 45 RXD5 (out), 46 RXD4 (out), 47 RXD3 (out), 48 VDD (power), 49 RXD2 (out), 50 RXD1 (out), 51 RXD0 (out), 52 GNDA (power), 53 DINRXN (in), 54 DINRXP (in), 55 VDDA (power), 56 RREF (in), 57 VDDA (power), 58 GNDA (power), 59 DOUTTXN (out), 60 DOUTTXP (out), 61 GNDA (power), 62 TXD0 (in), 63 TXD1 (in), 64 TXD2 (in), 65 EP (power)

## TLK1521IPAP
designator IC?
500Mbps to 1.3Gbps Transceiver
pins: 1 VDD (power), 2 TXD3 (in), 3 TXD4 (in), 4 TXD5 (in), 5 GND (power), 6 TXD6 (in), 7 TXD7 (in), 8 GTX_CLK (in), 9 VDD (power), 10 TXD8 (in), 11 TXD9 (in), 12 TXD10 (in), 13 GND (power), 14 TXD11 (in), 15 TXD12 (in), 16 TXD13 (in), 17 TXD14 (in), 18 GND (power), 19 TXD15 (in), 20 TXD16 (in), 21 LOOPEN (in), 22 TXD17 (in), 23 VDD (power), 24 ENABLE (in), 25 SYNC (in), 26 LOCKB (out), 27 TESTEN (in), 28 GND (power), 29 RXD17 (out), 30 RXD16 (out), 31 RXD15 (out), 32 RXD14 (out), 33 GND (power), 34 RXD13 (out), 35 RXD12 (out), 36 RXD11 (out), 37 RXD10 (out), 38 VDD (power), 39 RXD9 (out), 40 RXD8 (out), 41 RX_CLK (out), 42 RXD7 (out), 43 GND (power), 44 RXD6 (out), 45 RXD5 (out), 46 RXD4 (out), 47 RXD3 (out), 48 VDD (power), 49 RXD2 (out), 50 RXD1 (out), 51 RXD0 (out), 52 GNDA (power), 53 DINRXN (in), 54 DINRXP (in), 55 VDDA (power), 56 PREEMPH (in), 57 VDDA (power), 58 GNDA (power), 59 DOUTTXN (out), 60 DOUTTXP (out), 61 GNDA (power), 62 TXD0 (in), 63 TXD1 (in), 64 TXD2 (in), 65 PWRPAD (power)

## TLK2501IRCP
designator IC?
1.5 to 2.5 Gbps Transceiver
pins: 1 VDD (power), 2 TXD3 (in), 3 TXD4 (in), 4 TXD5 (in), 5 GND (power), 6 TXD6 (in), 7 TXD7 (in), 8 GTX_CLK (in), 9 VDD (power), 10 TXD8 (in), 11 TXD9 (in), 12 TXD10 (in), 13 GND (power), 14 TXD11 (in), 15 TXD12 (in), 16 TXD13 (in), 17 TXD14 (in), 18 GND (power), 19 TXD15 (in), 20 TX_EN (in), 21 LOOPEN (in), 22 TX_ER (in), 23 VDD (power), 24 ENABLE (in), 25 LCKREFN (in), 26 PRBSEN (in), 27 TESTEN (in), 28 GND (power), 29 RX_ER/PRBS_PASS (out), 30 RX_DV/LOS (out), 31 RXD15 (out), 32 RXD14 (out), 33 GND (power), 34 RXD13 (out), 35 RXD12 (out), 36 RXD11 (out), 37 RXD10 (out), 38 VDD (power), 39 RXD9 (out), 40 RXD8 (out), 41 RX_CLK (out), 42 RXD7 (out), 43 GND (power), 44 RXD6 (out), 45 RXD5 (out), 46 RXD4 (out), 47 RXD3 (out), 48 VDD (power), 49 RXD2 (out), 50 RXD1 (out), 51 RXD0 (out), 52 GNDA (power), 53 DINRXN (in), 54 DINRXP (in), 55 VDDA (power), 56 RREF (in), 57 VDDA (power), 58 GNDA (power), 59 DOUTTXN (out), 60 DOUTTXP (out), 61 GNDA (power), 62 TXD0 (in), 63 TXD1 (in), 64 TXD2 (in), 65 PWRPAD (power)

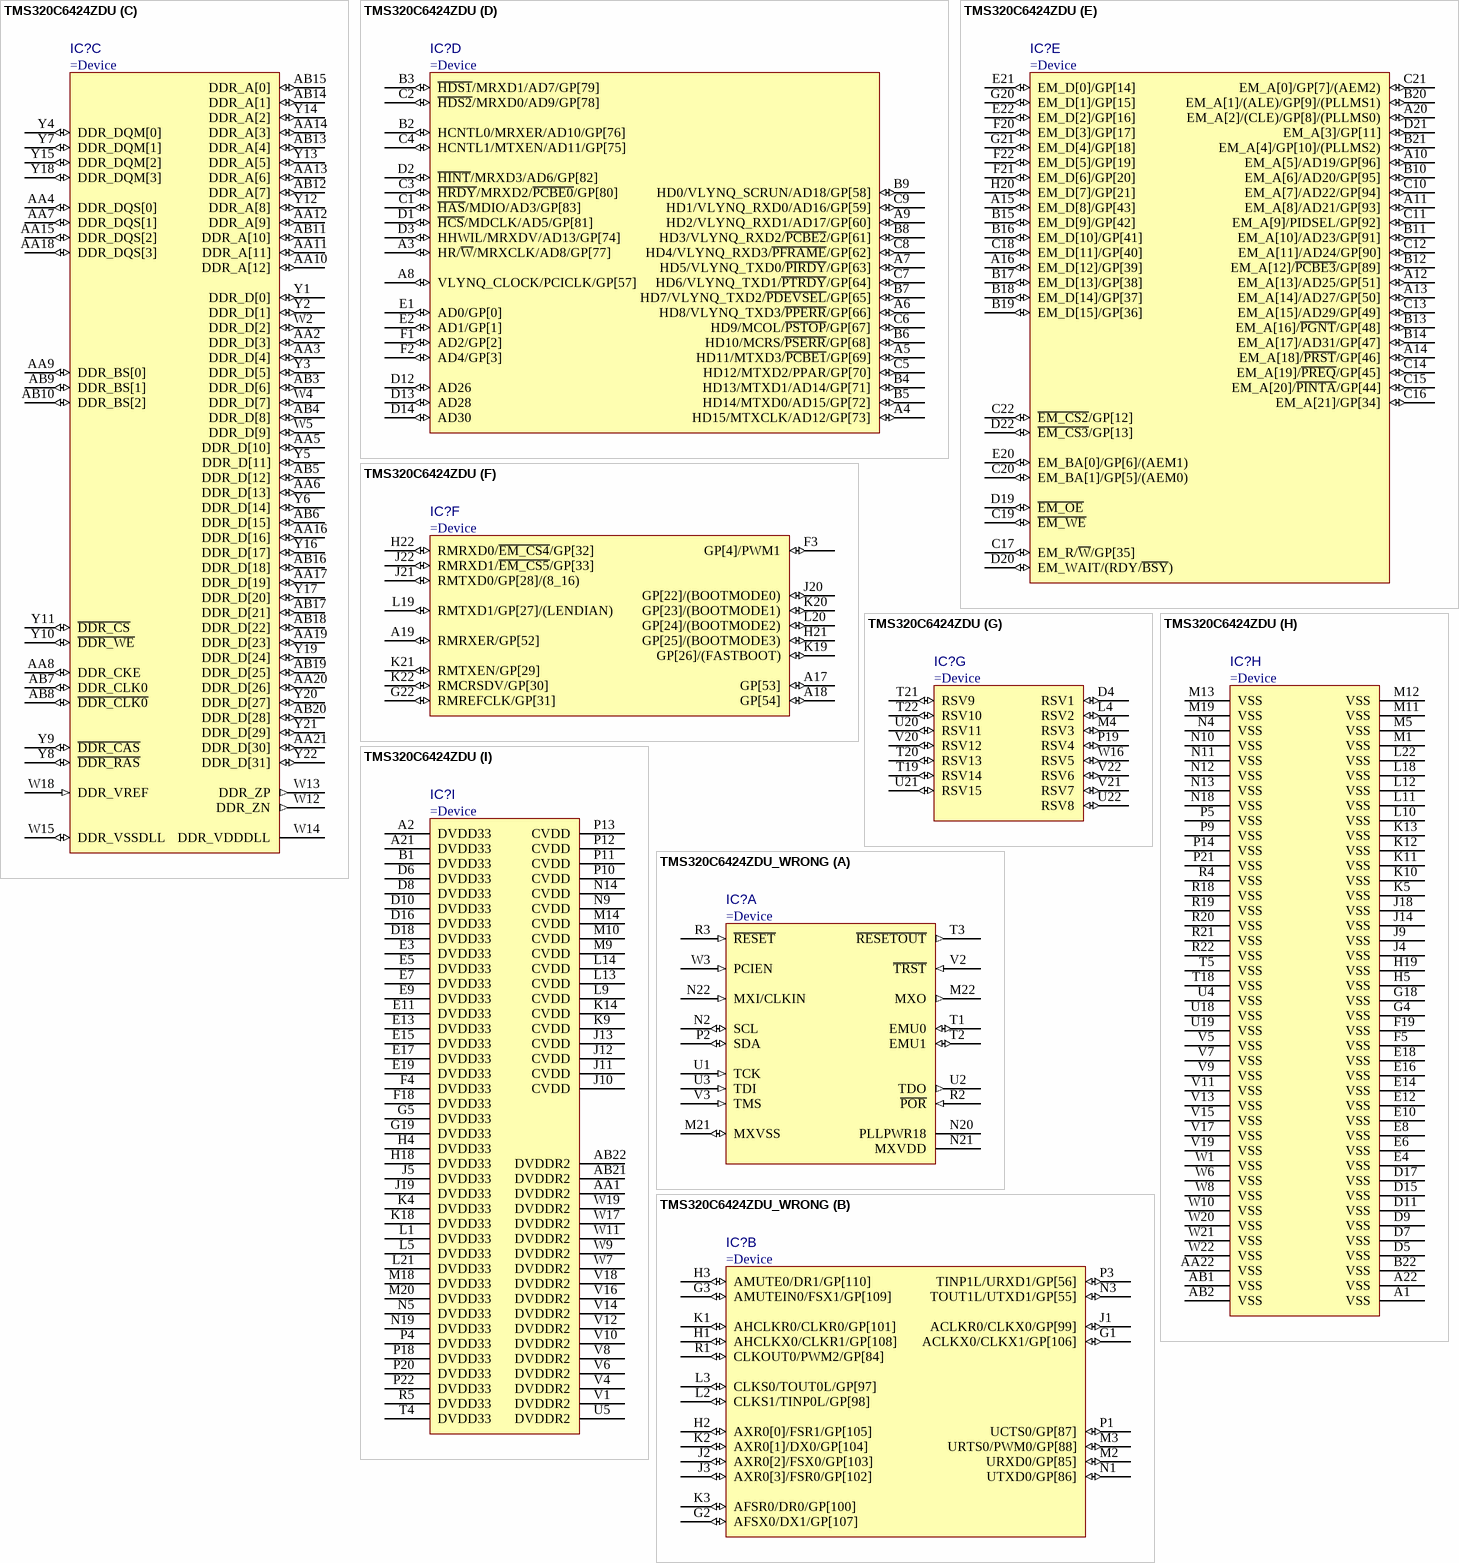
[diagram p122: symbols TMS320C6424ZDU to TMS320C6424ZDU_WRONG]

## TMS320C6424ZDU
designator IC?
Fixed-Point Digital Signal Processor (DSP)
part A pins: M21 MXVSS (io), M22 MXO (out), N2 SCL (io), N20 PLLPWR18 (power), N21 MXVDD (power), N22 MXI/CLKIN (in), P2 SDA (io), R2 ~{POR} (in), R3 ~{RESET} (in), T1 EMU0 (io), T2 EMU1 (io), T3 ~{RESETOUT} (out), U1 TCK (in), U2 TDO (out), U3 TDI (in), V2 ~{TRST} (in), V3 TMS (in), W3 PCIEN (in)
part B pins: G1 ACLKX0/CLKX1/GP[106] (io), G2 AFSX0/DX1/GP[107] (io), G3 AMUTEIN0/FSX1/GP[109] (io), H1 AHCLKX0/CLKR1/GP[108] (io), H2 AXR0[0]/FSR1/GP[105] (io), H3 AMUTE0/DR1/GP[110] (io), J1 ACLKR0/CLKX0/GP[99] (io), J2 AXR0[2]/FSX0/GP[103] (io), J3 AXR0[3]/FSR0/GP[102] (io), K1 AHCLKR0/CLKR0/GP[101] (io), K2 AXR0[1]/DX0/GP[104] (io), K3 AFSR0/DR0/GP[100] (io), L2 CLKS1/TINP0L/GP[98] (io), L3 CLKS0/TOUT0L/GP[97] (io), M2 URXD0/GP[85] (io), M3 URTS0/PWM0/GP[88] (io), N1 UTXD0/GP[86] (io), N3 TOUT1L/UTXD1/GP[55] (io), P1 UCTS0/GP[87] (io), P3 TINP1L/URXD1/GP[56] (io), R1 CLKOUT0/PWM2/GP[84] (io)
part C pins: AA2 DDR_D[3] (io), AA3 DDR_D[4] (io), AA4 DDR_DQS[0] (io), AA5 DDR_D[10] (io), AA6 DDR_D[13] (io), AA7 DDR_DQS[1] (io), AA8 DDR_CKE (io), AA9 DDR_BS[0] (io), AA10 DDR_A[12] (io), AA11 DDR_A[11] (io), AA12 DDR_A[9] (io), AA13 DDR_A[6] (io), AA14 DDR_A[3] (io), AA15 DDR_DQS[2] (io), AA16 DDR_D[16] (io), AA17 DDR_D[19] (io), AA18 DDR_DQS[3] (io), AA19 DDR_D[23] (io), AA20 DDR_D[26] (io), AA21 DDR_D[30] (io), AB3 DDR_D[6] (io), AB4 DDR_D[8] (io), AB5 DDR_D[12] (io), AB6 DDR_D[15] (io), AB7 DDR_CLK0 (io), AB8 ~{DDR_CLK0} (io), AB9 DDR_BS[1] (io), AB10 DDR_BS[2] (io), AB11 DDR_A[10] (io), AB12 DDR_A[7] (io), AB13 DDR_A[4] (io), AB14 DDR_A[1] (io), AB15 DDR_A[0] (io), AB16 DDR_D[18] (io), AB17 DDR_D[21] (io), AB18 DDR_D[22] (io), AB19 DDR_D[25] (io), AB20 DDR_D[28] (io), W2 DDR_D[2] (io), W4 DDR_D[7] (io), W5 DDR_D[9] (io), W12 DDR_ZN (out), W13 DDR_ZP (out), W14 DDR_VDDDLL (power), W15 DDR_VSSDLL (io), W18 DDR_VREF (in), Y1 DDR_D[0] (io), Y2 DDR_D[1] (io), Y3 DDR_D[5] (io), Y4 DDR_DQM[0] (io), Y5 DDR_D[11] (io), Y6 DDR_D[14] (io), Y7 DDR_DQM[1] (io), Y8 ~{DDR_RAS} (io), Y9 ~{DDR_CAS} (io), Y10 ~{DDR_WE} (io), Y11 ~{DDR_CS} (io), Y12 DDR_A[8] (io), Y13 DDR_A[5] (io), Y14 DDR_A[2] (io), Y15 DDR_DQM[2] (io), Y16 DDR_D[17] (io), Y17 DDR_D[20] (io), Y18 DDR_DQM[3] (io), Y19 DDR_D[24] (io), Y20 DDR_D[27] (io), Y21 DDR_D[29] (io), Y22 DDR_D[31] (io)
part D pins: A3 HR/~{W}/MRXCLK/AD8/GP[77] (io), A4 HD15/MTXCLK/AD12/GP[73] (io), A5 HD11/MTXD3/~{PCBE1}/GP[69] (io), A6 HD8/VLYNQ_TXD3/~{PPERR}/GP[66] (io), A7 HD5/VLYNQ_TXD0/~{PIRDY}/GP[63] (io), A8 VLYNQ_CLOCK/PCICLK/GP[57] (io), A9 HD2/VLYNQ_RXD1/AD17/GP[60] (io), B2 HCNTL0/MRXER/AD10/GP[76] (io), B3 ~{HDS1}/MRXD1/AD7/GP[79] (io), B4 HD13/MTXD1/AD14/GP[71] (io), B5 HD14/MTXD0/AD15/GP[72] (io), B6 HD10/MCRS/~{PSERR}/GP[68] (io), B7 HD7/VLYNQ_TXD2/~{PDEVSEL}/GP[65] (io), B8 HD3/VLYNQ_RXD2/~{PCBE2}/GP[61] (io), B9 HD0/VLYNQ_SCRUN/AD18/GP[58] (io), C1 ~{HAS}/MDIO/AD3/GP[83] (io), C2 ~{HDS2}/MRXD0/AD9/GP[78] (io), C3 ~{HRDY}/MRXD2/~{PCBE0}/GP[80] (io), C4 HCNTL1/MTXEN/AD11/GP[75] (io), C5 HD12/MTXD2/PPAR/GP[70] (io), C6 HD9/MCOL/~{PSTOP}/GP[67] (io), C7 HD6/VLYNQ_TXD1/~{PTRDY}/GP[64] (io), C8 HD4/VLYNQ_RXD3/~{PFRAME}/GP[62] (io), C9 HD1/VLYNQ_RXD0/AD16/GP[59] (io), D1 ~{HCS}/MDCLK/AD5/GP[81] (io), D2 ~{HINT}/MRXD3/AD6/GP[82] (io), D3 HHWIL/MRXDV/AD13/GP[74] (io), D12 AD26 (io), D13 AD28 (io), D14 AD30 (io), E1 AD0/GP[0] (io), E2 AD1/GP[1] (io), F1 AD2/GP[2] (io), F2 AD4/GP[3] (io)
part E pins: A10 EM_A[5]/AD19/GP[96] (io), A11 EM_A[8]/AD21/GP[93] (io), A12 EM_A[13]/AD25/GP[51] (io), A13 EM_A[14]/AD27/GP[50] (io), A14 EM_A[18]/~{PRST}/GP[46] (io), A15 EM_D[8]/GP[43] (io), A16 EM_D[12]/GP[39] (io), A20 EM_A[2]/(CLE)/GP[8]/(PLLMS0) (io), B10 EM_A[6]/AD20/GP[95] (io), B11 EM_A[10]/AD23/GP[91] (io), B12 EM_A[12]/~{PCBE3}/GP[89] (io), B13 EM_A[16]/~{PGNT}/GP[48] (io), B14 EM_A[17]/AD31/GP[47] (io), B15 EM_D[9]/GP[42] (io), B16 EM_D[10]/GP[41] (io), B17 EM_D[13]/GP[38] (io), B18 EM_D[14]/GP[37] (io), B19 EM_D[15]/GP[36] (io), B20 EM_A[1]/(ALE)/GP[9]/(PLLMS1) (io), B21 EM_A[4]/GP[10]/(PLLMS2) (io), C10 EM_A[7]/AD22/GP[94] (io), C11 EM_A[9]/PIDSEL/GP[92] (io), C12 EM_A[11]/AD24/GP[90] (io), C13 EM_A[15]/AD29/GP[49] (io), C14 EM_A[19]/~{PREQ}/GP[45] (io), C15 EM_A[20]/~{PINTA}/GP[44] (io), C16 EM_A[21]/GP[34] (io), C17 EM_R/~{W}/GP[35] (io), C18 EM_D[11]/GP[40] (io), C19 ~{EM_WE} (io), C20 EM_BA[1]/GP[5]/(AEM0) (io), C21 EM_A[0]/GP[7]/(AEM2) (io), C22 ~{EM_CS2}/GP[12] (io), D19 ~{EM_OE} (io), D20 EM_WAIT/(RDY/~{BSY}) (io), D21 EM_A[3]/GP[11] (io), D22 ~{EM_CS3}/GP[13] (io), E20 EM_BA[0]/GP[6]/(AEM1) (io), E21 EM_D[0]/GP[14] (io), E22 EM_D[2]/GP[16] (io), F20 EM_D[3]/GP[17] (io), F21 EM_D[6]/GP[20] (io), F22 EM_D[5]/GP[19] (io), G20 EM_D[1]/GP[15] (io), G21 EM_D[4]/GP[18] (io), H20 EM_D[7]/GP[21] (io)
part F pins: A17 GP[53] (io), A18 GP[54] (io), A19 RMRXER/GP[52] (io), F3 GP[4]/PWM1 (io), G22 RMREFCLK/GP[31] (io), H21 GP[25]/(BOOTMODE3) (io), H22 RMRXD0/~{EM_CS4}/GP[32] (io), J20 GP[22]/(BOOTMODE0) (io), J21 RMTXD0/GP[28]/(8_16) (io), J22 RMRXD1/~{EM_CS5}/GP[33] (io), K19 GP[26]/(FASTBOOT) (io), K20 GP[23]/(BOOTMODE1) (io), K21 RMTXEN/GP[29] (io), K22 RMCRSDV/GP[30] (io), L19 RMTXD1/GP[27]/(LENDIAN) (io), L20 GP[24]/(BOOTMODE2) (io)
part G pins: D4 RSV1 (io), L4 RSV2 (io), M4 RSV3 (io), P19 RSV4 (io), T19 RSV14 (io), T20 RSV13 (io), T21 RSV9 (io), T22 RSV10 (io), U20 RSV11 (io), U21 RSV15 (io), U22 RSV8 (io), V20 RSV12 (io), V21 RSV7 (io), V22 RSV6 (io), W16 RSV5 (io)
part H pins: A1 VSS (power), A22 VSS (power), AA22 VSS (power), AB1 VSS (power), AB2 VSS (power), B22 VSS (power), D5 VSS (power), D7 VSS (power), D9 VSS (power), D11 VSS (power), D15 VSS (power), D17 VSS (power), E4 VSS (power), E6 VSS (power), E8 VSS (power), E10 VSS (power), E12 VSS (power), E14 VSS (power), E16 VSS (power), E18 VSS (power), F5 VSS (power), F19 VSS (power), G4 VSS (power), G18 VSS (power), H5 VSS (power), H19 VSS (power), J4 VSS (power), J9 VSS (power), J14 VSS (power), J18 VSS (power), K5 VSS (power), K10 VSS (power), K11 VSS (power), K12 VSS (power), K13 VSS (power), L10 VSS (power), L11 VSS (power), L12 VSS (power), L18 VSS (power), L22 VSS (power), M1 VSS (power), M5 VSS (power), M11 VSS (power), M12 VSS (power), M13 VSS (power), M19 VSS (power), N4 VSS (power), N10 VSS (power), N11 VSS (power), N12 VSS (power), N13 VSS (power), N18 VSS (power), P5 VSS (power), P9 VSS (power), P14 VSS (power), P21 VSS (power), R4 VSS (power), R18 VSS (power), R19 VSS (power), R20 VSS (power), R21 VSS (power), R22 VSS (power), T5 VSS (power), T18 VSS (power), U4 VSS (power), U18 VSS (power), U19 VSS (power), V5 VSS (power), V7 VSS (power), V9 VSS (power), V11 VSS (power), V13 VSS (power), V15 VSS (power), V17 VSS (power), V19 VSS (power), W1 VSS (power), W6 VSS (power), W8 VSS (power), W10 VSS (power), W20 VSS (power), W21 VSS (power), W22 VSS (power)
part I pins: A2 DVDD33 (power), A21 DVDD33 (power), AA1 DVDDR2 (power), AB21 DVDDR2 (power), AB22 DVDDR2 (power), B1 DVDD33 (power), D6 DVDD33 (power), D8 DVDD33 (power), D10 DVDD33 (power), D16 DVDD33 (power), D18 DVDD33 (power), E3 DVDD33 (power), E5 DVDD33 (power), E7 DVDD33 (power), E9 DVDD33 (power), E11 DVDD33 (power), E13 DVDD33 (power), E15 DVDD33 (power), E17 DVDD33 (power), E19 DVDD33 (power), F4 DVDD33 (power), F18 DVDD33 (power), G5 DVDD33 (power), G19 DVDD33 (power), H4 DVDD33 (power), H18 DVDD33 (power), J5 DVDD33 (power), J10 CVDD (power), J11 CVDD (power), J12 CVDD (power), J13 CVDD (power), J19 DVDD33 (power), K4 DVDD33 (power), K9 CVDD (power), K14 CVDD (power), K18 DVDD33 (power), L1 DVDD33 (power), L5 DVDD33 (power), L9 CVDD (power), L13 CVDD (power), L14 CVDD (power), L21 DVDD33 (power), M9 CVDD (power), M10 CVDD (power), M14 CVDD (power), M18 DVDD33 (power), M20 DVDD33 (power), N5 DVDD33 (power), N9 CVDD (power), N14 CVDD (power), N19 DVDD33 (power), P4 DVDD33 (power), P10 CVDD (power), P11 CVDD (power), P12 CVDD (power), P13 CVDD (power), P18 DVDD33 (power), P20 DVDD33 (power), P22 DVDD33 (power), R5 DVDD33 (power), T4 DVDD33 (power), U5 DVDDR2 (power), V1 DVDDR2 (power), V4 DVDDR2 (power), V6 DVDDR2 (power), V8 DVDDR2 (power), V10 DVDDR2 (power), V12 DVDDR2 (power), V14 DVDDR2 (power), V16 DVDDR2 (power), V18 DVDDR2 (power), W7 DVDDR2 (power), W9 DVDDR2 (power), W11 DVDDR2 (power), W17 DVDDR2 (power), W19 DVDDR2 (power)

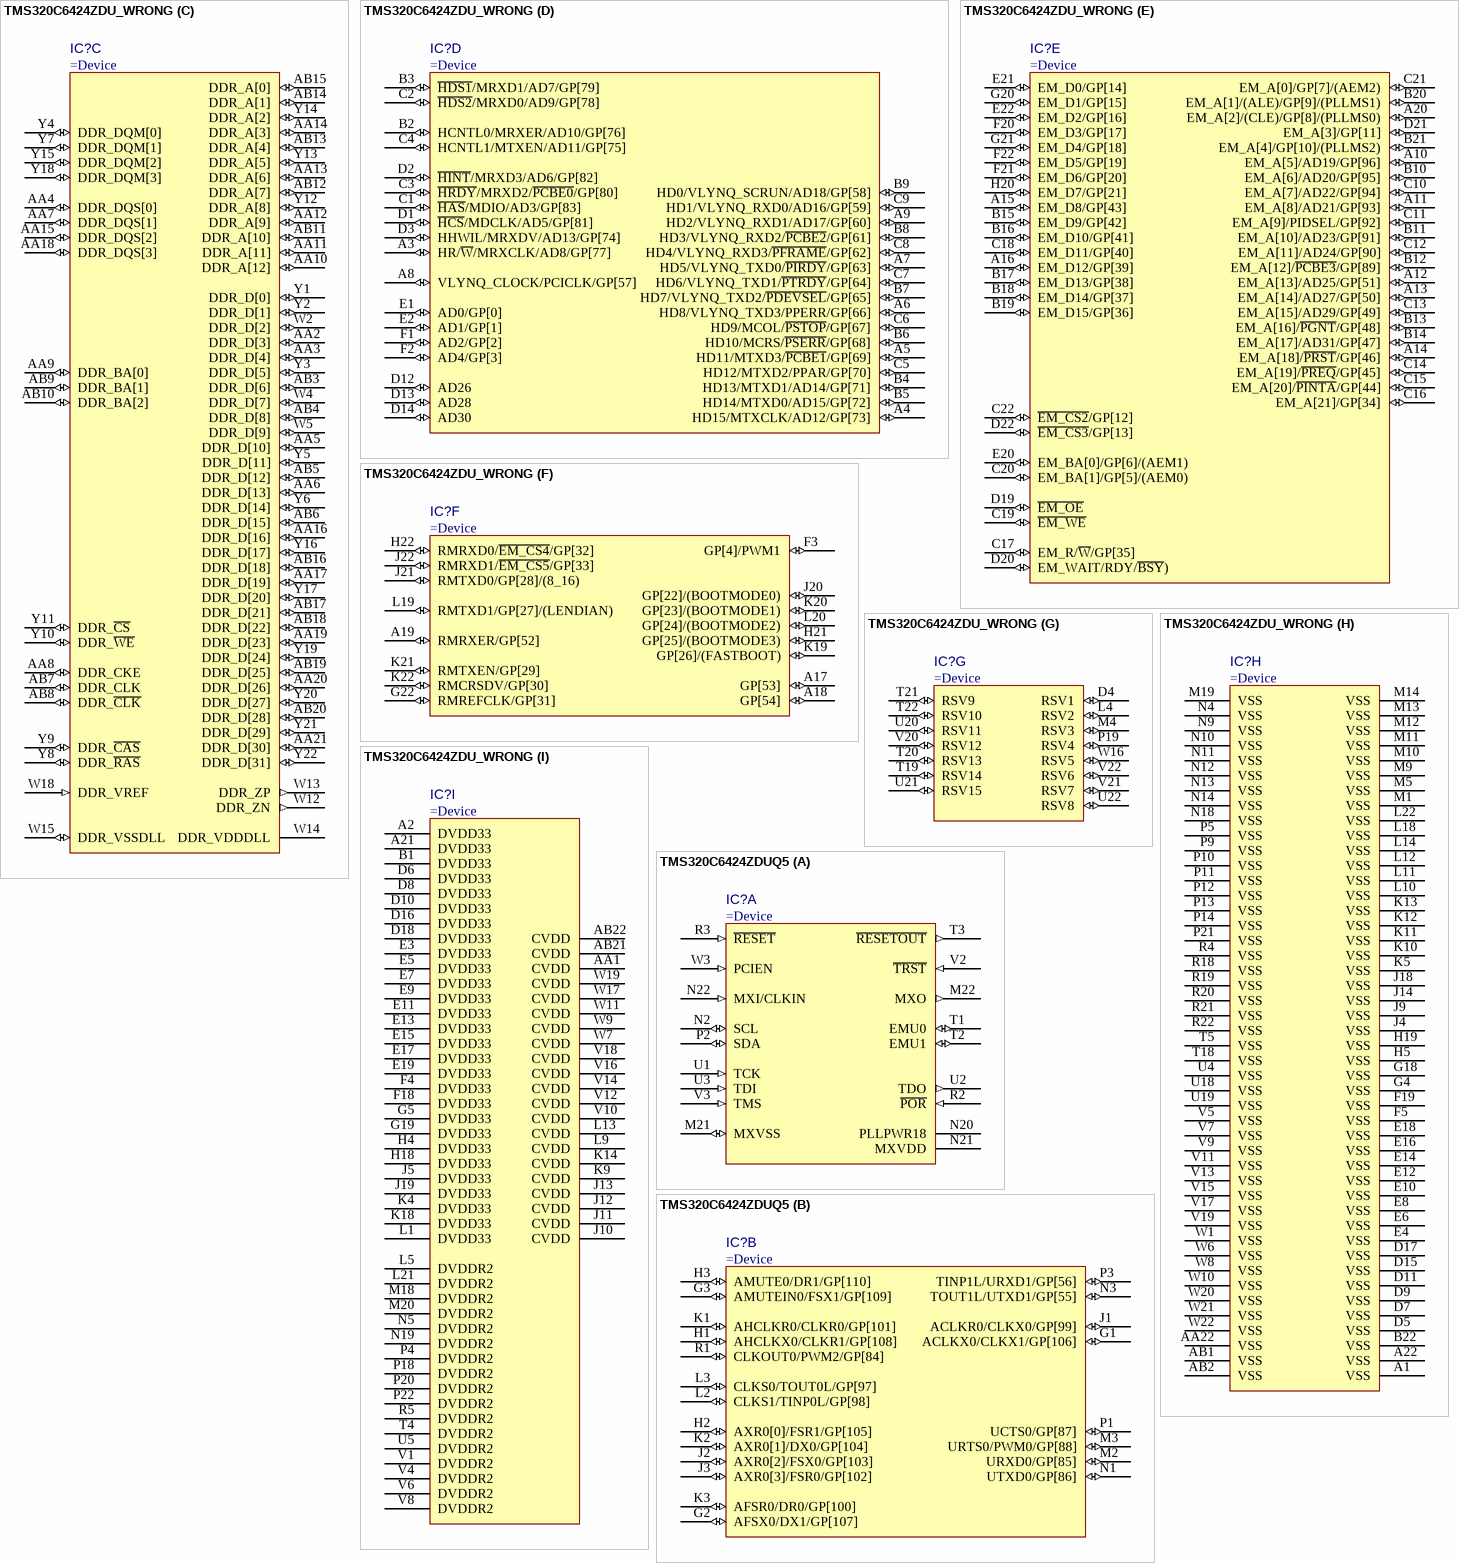
[diagram p123: symbols TMS320C6424ZDU_WRONG to TMS320C6424ZDUQ5]

## TMS320C6424ZDU_WRONG
designator IC?
Fixed-Point Digital Signal Processor (DSP)
part A pins: M21 MXVSS (io), M22 MXO (out), N2 SCL (io), N20 PLLPWR18 (power), N21 MXVDD (power), N22 MXI/CLKIN (in), P2 SDA (io), R2 ~{POR} (in), R3 ~{RESET} (in), T1 EMU0 (io), T2 EMU1 (io), T3 ~{RESETOUT} (out), U1 TCK (in), U2 TDO (out), U3 TDI (in), V2 ~{TRST} (in), V3 TMS (in), W3 PCIEN (in)
part B pins: G1 ACLKX0/CLKX1/GP[106] (io), G2 AFSX0/DX1/GP[107] (io), G3 AMUTEIN0/FSX1/GP[109] (io), H1 AHCLKX0/CLKR1/GP[108] (io), H2 AXR0[0]/FSR1/GP[105] (io), H3 AMUTE0/DR1/GP[110] (io), J1 ACLKR0/CLKX0/GP[99] (io), J2 AXR0[2]/FSX0/GP[103] (io), J3 AXR0[3]/FSR0/GP[102] (io), K1 AHCLKR0/CLKR0/GP[101] (io), K2 AXR0[1]/DX0/GP[104] (io), K3 AFSR0/DR0/GP[100] (io), L2 CLKS1/TINP0L/GP[98] (io), L3 CLKS0/TOUT0L/GP[97] (io), M2 URXD0/GP[85] (io), M3 URTS0/PWM0/GP[88] (io), N1 UTXD0/GP[86] (io), N3 TOUT1L/UTXD1/GP[55] (io), P1 UCTS0/GP[87] (io), P3 TINP1L/URXD1/GP[56] (io), R1 CLKOUT0/PWM2/GP[84] (io)
part C pins: AA2 DDR_D[3] (io), AA3 DDR_D[4] (io), AA4 DDR_DQS[0] (io), AA5 DDR_D[10] (io), AA6 DDR_D[13] (io), AA7 DDR_DQS[1] (io), AA8 DDR_CKE (io), AA9 DDR_BA[0] (io), AA10 DDR_A[12] (io), AA11 DDR_A[11] (io), AA12 DDR_A[9] (io), AA13 DDR_A[6] (io), AA14 DDR_A[3] (io), AA15 DDR_DQS[2] (io), AA16 DDR_D[16] (io), AA17 DDR_D[19] (io), AA18 DDR_DQS[3] (io), AA19 DDR_D[23] (io), AA20 DDR_D[26] (io), AA21 DDR_D[30] (io), AB3 DDR_D[6] (io), AB4 DDR_D[8] (io), AB5 DDR_D[12] (io), AB6 DDR_D[15] (io), AB7 DDR_CLK (io), AB8 DDR_~{CLK} (io), AB9 DDR_BA[1] (io), AB10 DDR_BA[2] (io), AB11 DDR_A[10] (io), AB12 DDR_A[7] (io), AB13 DDR_A[4] (io), AB14 DDR_A[1] (io), AB15 DDR_A[0] (io), AB16 DDR_D[18] (io), AB17 DDR_D[21] (io), AB18 DDR_D[22] (io), AB19 DDR_D[25] (io), AB20 DDR_D[28] (io), W2 DDR_D[2] (io), W4 DDR_D[7] (io), W5 DDR_D[9] (io), W12 DDR_ZN (out), W13 DDR_ZP (out), W14 DDR_VDDDLL (power), W15 DDR_VSSDLL (io), W18 DDR_VREF (in), Y1 DDR_D[0] (io), Y2 DDR_D[1] (io), Y3 DDR_D[5] (io), Y4 DDR_DQM[0] (io), Y5 DDR_D[11] (io), Y6 DDR_D[14] (io), Y7 DDR_DQM[1] (io), Y8 DDR_~{RAS} (io), Y9 DDR_~{CAS} (io), Y10 DDR_~{WE} (io), Y11 DDR_~{CS} (io), Y12 DDR_A[8] (io), Y13 DDR_A[5] (io), Y14 DDR_A[2] (io), Y15 DDR_DQM[2] (io), Y16 DDR_D[17] (io), Y17 DDR_D[20] (io), Y18 DDR_DQM[3] (io), Y19 DDR_D[24] (io), Y20 DDR_D[27] (io), Y21 DDR_D[29] (io), Y22 DDR_D[31] (io)
part D pins: A3 HR/~{W}/MRXCLK/AD8/GP[77] (io), A4 HD15/MTXCLK/AD12/GP[73] (io), A5 HD11/MTXD3/~{PCBE1}/GP[69] (io), A6 HD8/VLYNQ_TXD3/PPERR/GP[66] (io), A7 HD5/VLYNQ_TXD0/~{PIRDY}/GP[63] (io), A8 VLYNQ_CLOCK/PCICLK/GP[57] (io), A9 HD2/VLYNQ_RXD1/AD17/GP[60] (io), B2 HCNTL0/MRXER/AD10/GP[76] (io), B3 ~{HDS1}/MRXD1/AD7/GP[79] (io), B4 HD13/MTXD1/AD14/GP[71] (io), B5 HD14/MTXD0/AD15/GP[72] (io), B6 HD10/MCRS/~{PSERR}/GP[68] (io), B7 HD7/VLYNQ_TXD2/~{PDEVSEL}/GP[65] (io), B8 HD3/VLYNQ_RXD2/~{PCBE2}/GP[61] (io), B9 HD0/VLYNQ_SCRUN/AD18/GP[58] (io), C1 ~{HAS}/MDIO/AD3/GP[83] (io), C2 ~{HDS2}/MRXD0/AD9/GP[78] (io), C3 ~{HRDY}/MRXD2/~{PCBE0}/GP[80] (io), C4 HCNTL1/MTXEN/AD11/GP[75] (io), C5 HD12/MTXD2/PPAR/GP[70] (io), C6 HD9/MCOL/~{PSTOP}/GP[67] (io), C7 HD6/VLYNQ_TXD1/~{PTRDY}/GP[64] (io), C8 HD4/VLYNQ_RXD3/~{PFRAME}/GP[62] (io), C9 HD1/VLYNQ_RXD0/AD16/GP[59] (io), D1 ~{HCS}/MDCLK/AD5/GP[81] (io), D2 ~{HINT}/MRXD3/AD6/GP[82] (io), D3 HHWIL/MRXDV/AD13/GP[74] (io), D12 AD26 (io), D13 AD28 (io), D14 AD30 (io), E1 AD0/GP[0] (io), E2 AD1/GP[1] (io), F1 AD2/GP[2] (io), F2 AD4/GP[3] (io)
part E pins: A10 EM_A[5]/AD19/GP[96] (io), A11 EM_A[8]/AD21/GP[93] (io), A12 EM_A[13]/AD25/GP[51] (io), A13 EM_A[14]/AD27/GP[50] (io), A14 EM_A[18]/~{PRST}/GP[46] (io), A15 EM_D8/GP[43] (io), A16 EM_D12/GP[39] (io), A20 EM_A[2]/(CLE)/GP[8]/(PLLMS0) (io), B10 EM_A[6]/AD20/GP[95] (io), B11 EM_A[10]/AD23/GP[91] (io), B12 EM_A[12]/~{PCBE3}/GP[89] (io), B13 EM_A[16]/~{PGNT}/GP[48] (io), B14 EM_A[17]/AD31/GP[47] (io), B15 EM_D9/GP[42] (io), B16 EM_D10/GP[41] (io), B17 EM_D13/GP[38] (io), B18 EM_D14/GP[37] (io), B19 EM_D15/GP[36] (io), B20 EM_A[1]/(ALE)/GP[9]/(PLLMS1) (io), B21 EM_A[4]/GP[10]/(PLLMS2) (io), C10 EM_A[7]/AD22/GP[94] (io), C11 EM_A[9]/PIDSEL/GP[92] (io), C12 EM_A[11]/AD24/GP[90] (io), C13 EM_A[15]/AD29/GP[49] (io), C14 EM_A[19]/~{PREQ}/GP[45] (io), C15 EM_A[20]/~{PINTA}/GP[44] (io), C16 EM_A[21]/GP[34] (io), C17 EM_R/~{W}/GP[35] (io), C18 EM_D11/GP[40] (io), C19 ~{EM_WE} (io), C20 EM_BA[1]/GP[5]/(AEM0) (io), C21 EM_A[0]/GP[7]/(AEM2) (io), C22 ~{EM_CS2}/GP[12] (io), D19 ~{EM_OE} (io), D20 EM_WAIT/RDY/~{BSY}) (io), D21 EM_A[3]/GP[11] (io), D22 ~{EM_CS3}/GP[13] (io), E20 EM_BA[0]/GP[6]/(AEM1) (io), E21 EM_D0/GP[14] (io), E22 EM_D2/GP[16] (io), F20 EM_D3/GP[17] (io), F21 EM_D6/GP[20] (io), F22 EM_D5/GP[19] (io), G20 EM_D1/GP[15] (io), G21 EM_D4/GP[18] (io), H20 EM_D7/GP[21] (io)
part F pins: A17 GP[53] (io), A18 GP[54] (io), A19 RMRXER/GP[52] (io), F3 GP[4]/PWM1 (io), G22 RMREFCLK/GP[31] (io), H21 GP[25]/(BOOTMODE3) (io), H22 RMRXD0/~{EM_CS4}/GP[32] (io), J20 GP[22]/(BOOTMODE0) (io), J21 RMTXD0/GP[28]/(8_16) (io), J22 RMRXD1/~{EM_CS5}/GP[33] (io), K19 GP[26]/(FASTBOOT) (io), K20 GP[23]/(BOOTMODE1) (io), K21 RMTXEN/GP[29] (io), K22 RMCRSDV/GP[30] (io), L19 RMTXD1/GP[27]/(LENDIAN) (io), L20 GP[24]/(BOOTMODE2) (io)
part G pins: D4 RSV1 (io), L4 RSV2 (io), M4 RSV3 (io), P19 RSV4 (io), T19 RSV14 (io), T20 RSV13 (io), T21 RSV9 (io), T22 RSV10 (io), U20 RSV11 (io), U21 RSV15 (io), U22 RSV8 (io), V20 RSV12 (io), V21 RSV7 (io), V22 RSV6 (io), W16 RSV5 (io)
part H pins: A1 VSS (power), A22 VSS (power), AA22 VSS (power), AB1 VSS (power), AB2 VSS (power), B22 VSS (power), D5 VSS (power), D7 VSS (power), D9 VSS (power), D11 VSS (power), D15 VSS (power), D17 VSS (power), E4 VSS (power), E6 VSS (power), E8 VSS (power), E10 VSS (power), E12 VSS (power), E14 VSS (power), E16 VSS (power), E18 VSS (power), F5 VSS (power), F19 VSS (power), G4 VSS (power), G18 VSS (power), H5 VSS (power), H19 VSS (power), J4 VSS (power), J9 VSS (power), J14 VSS (power), J18 VSS (power), K5 VSS (power), K10 VSS (power), K11 VSS (power), K12 VSS (power), K13 VSS (power), L10 VSS (power), L11 VSS (power), L12 VSS (power), L14 VSS (power), L18 VSS (power), L22 VSS (power), M1 VSS (power), M5 VSS (power), M9 VSS (power), M10 VSS (power), M11 VSS (power), M12 VSS (power), M13 VSS (power), M14 VSS (power), M19 VSS (power), N4 VSS (power), N9 VSS (power), N10 VSS (power), N11 VSS (power), N12 VSS (power), N13 VSS (power), N14 VSS (power), N18 VSS (power), P5 VSS (power), P9 VSS (power), P10 VSS (power), P11 VSS (power), P12 VSS (power), P13 VSS (power), P14 VSS (power), P21 VSS (power), R4 VSS (power), R18 VSS (power), R19 VSS (power), R20 VSS (power), R21 VSS (power), R22 VSS (power), T5 VSS (power), T18 VSS (power), U4 VSS (power), U18 VSS (power), U19 VSS (power), V5 VSS (power), V7 VSS (power), V9 VSS (power), V11 VSS (power), V13 VSS (power), V15 VSS (power), V17 VSS (power), V19 VSS (power), W1 VSS (power), W6 VSS (power), W8 VSS (power), W10 VSS (power), W20 VSS (power), W21 VSS (power), W22 VSS (power)
part I pins: A2 DVDD33 (power), A21 DVDD33 (power), AA1 CVDD (power), AB21 CVDD (power), AB22 CVDD (power), B1 DVDD33 (power), D6 DVDD33 (power), D8 DVDD33 (power), D10 DVDD33 (power), D16 DVDD33 (power), D18 DVDD33 (power), E3 DVDD33 (power), E5 DVDD33 (power), E7 DVDD33 (power), E9 DVDD33 (power), E11 DVDD33 (power), E13 DVDD33 (power), E15 DVDD33 (power), E17 DVDD33 (power), E19 DVDD33 (power), F4 DVDD33 (power), F18 DVDD33 (power), G5 DVDD33 (power), G19 DVDD33 (power), H4 DVDD33 (power), H18 DVDD33 (power), J5 DVDD33 (power), J10 CVDD (power), J11 CVDD (power), J12 CVDD (power), J13 CVDD (power), J19 DVDD33 (power), K4 DVDD33 (power), K9 CVDD (power), K14 CVDD (power), K18 DVDD33 (power), L1 DVDD33 (power), L5 DVDDR2 (power), L9 CVDD (power), L13 CVDD (power), L21 DVDDR2 (power), M18 DVDDR2 (power), M20 DVDDR2 (power), N5 DVDDR2 (power), N19 DVDDR2 (power), P4 DVDDR2 (power), P18 DVDDR2 (power), P20 DVDDR2 (power), P22 DVDDR2 (power), R5 DVDDR2 (power), T4 DVDDR2 (power), U5 DVDDR2 (power), V1 DVDDR2 (power), V4 DVDDR2 (power), V6 DVDDR2 (power), V8 DVDDR2 (power), V10 CVDD (power), V12 CVDD (power), V14 CVDD (power), V16 CVDD (power), V18 CVDD (power), W7 CVDD (power), W9 CVDD (power), W11 CVDD (power), W17 CVDD (power), W19 CVDD (power)

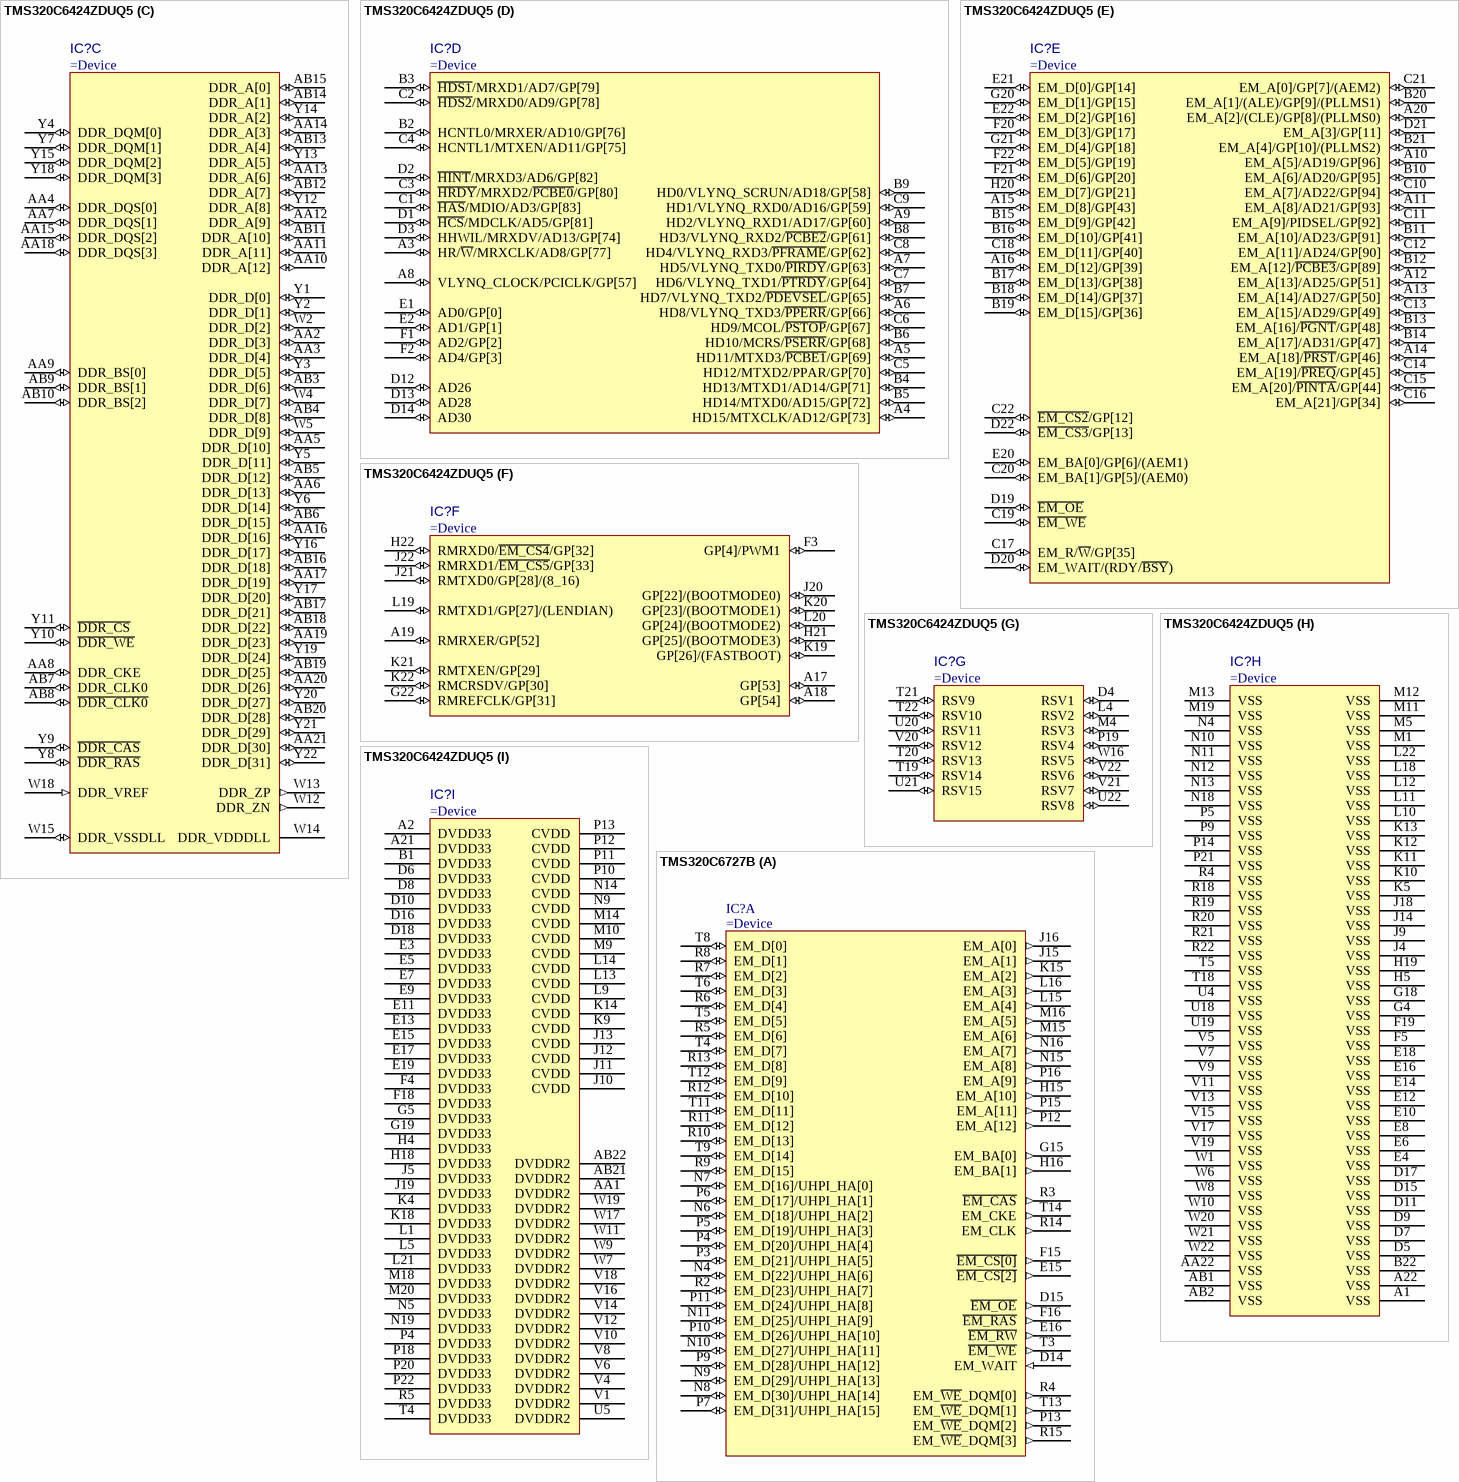
[diagram p124: symbols TMS320C6424ZDUQ5 to TMS320C6727B]